# Altium integrated library Renesas Microcontroller 740.IntLib: 274 symbols (part 8 of 13)
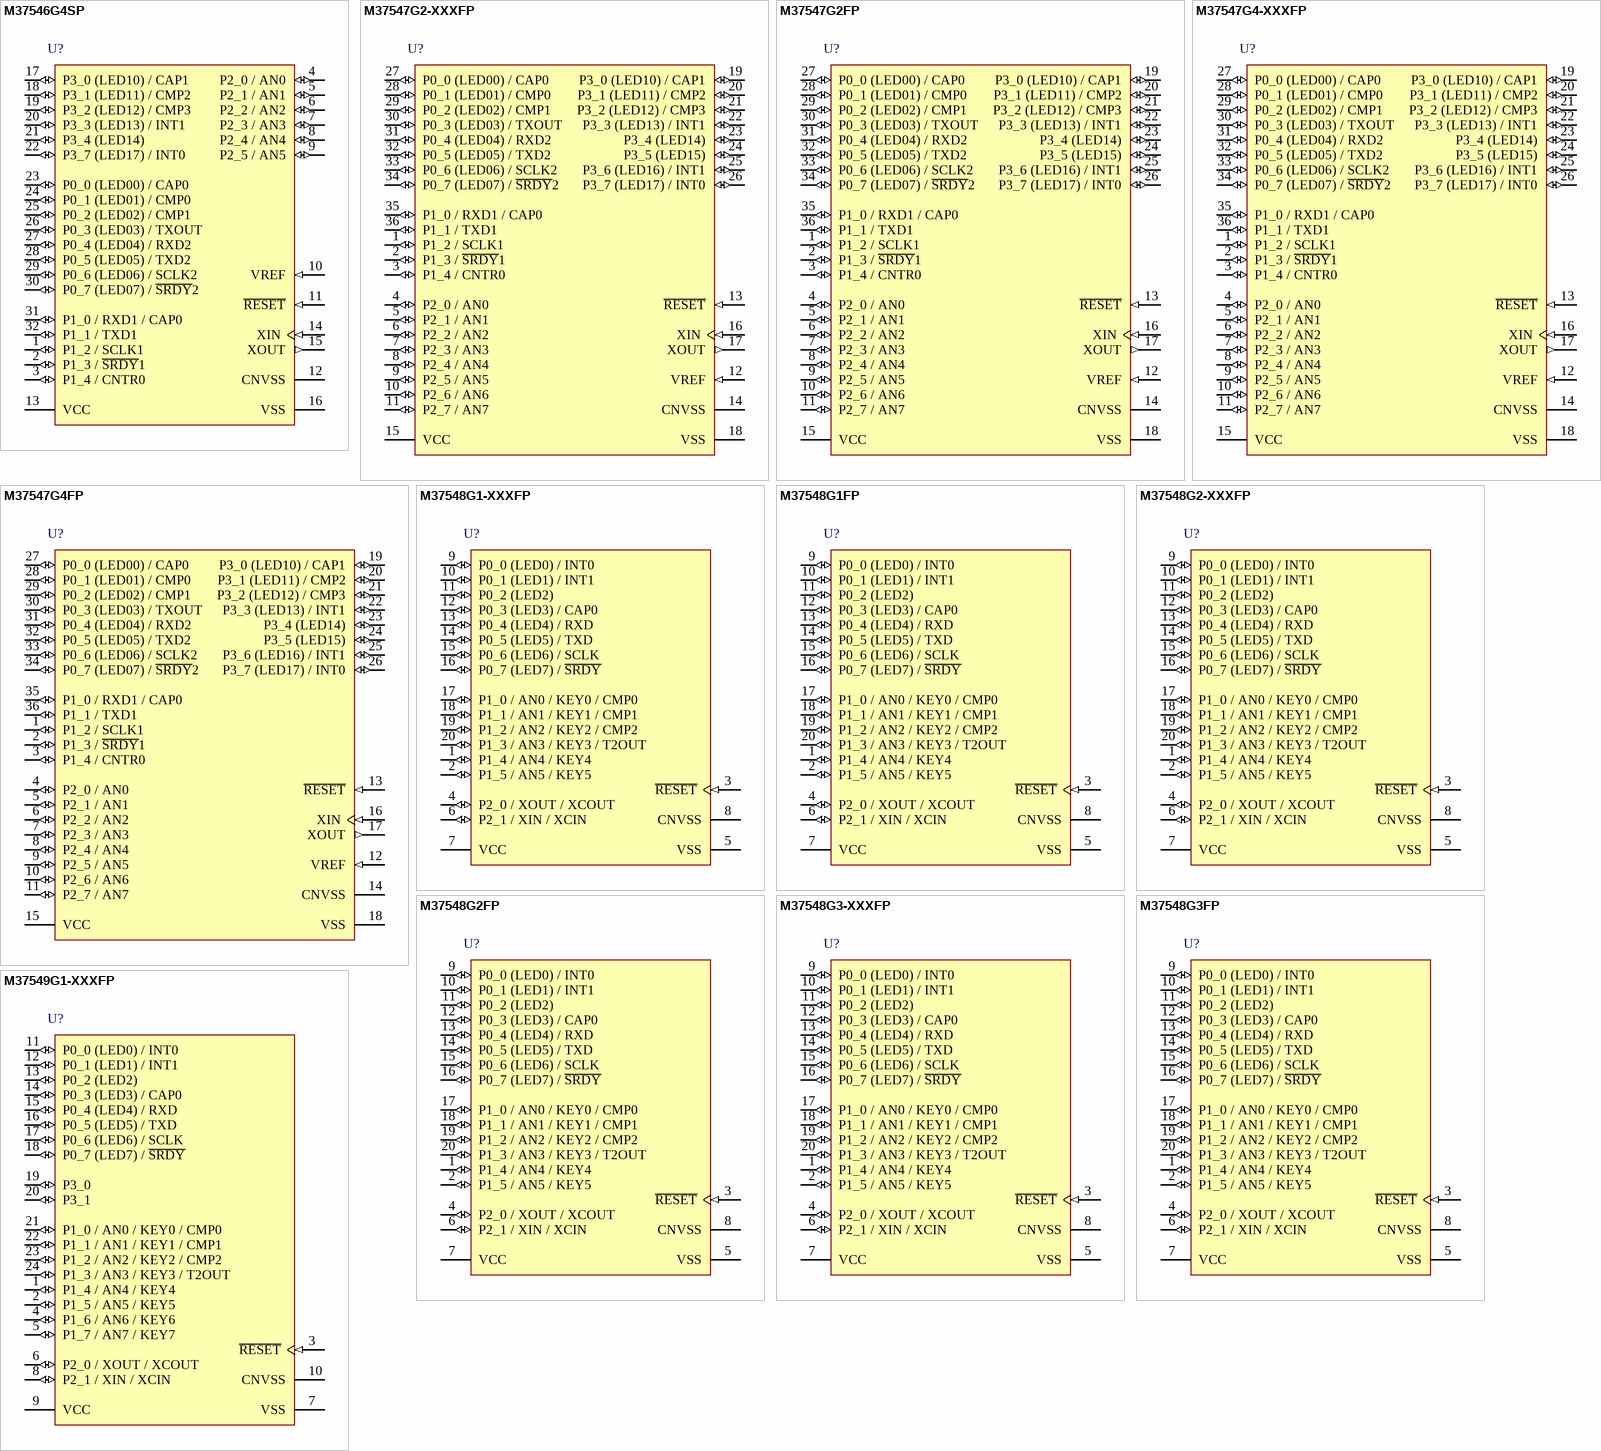
[diagram p44: symbols M37546G4SP to M37549G1-XXXFP]

## M37549G1-XXXFP
designator U?
QzROM 8-BIT CMOS Microcomputer, 38000/740 Series CPU, 7549 Group, 2K ROM, 192 bytes RAM, 24P2Q-A Pkg; Published: 28-Aug-2009; DatasheetVersion: Rev.2.02, Mar-2009; PackageVersion: Sep-2005; PackageReference: PRSP0024GA-A; Publisher: Altium Limited; PackageDescription: 24-Pin Plastic Shrink SOP, 10.1 x 5.3 x 1.8 mm Body, 0.8 mm Pitch; Code_JEITA: P-SSOP24-5.3x10.1-0.80; ComponentLink1Description: Manufacturer Link; ComponentLink1URL: http://sg.renesas.com/fmwk.jsp?cnt=740_family_landing.jsp&fp=/products/mpumcu/740_family/; ComponentLink2Description: Datasheet; ComponentLink2URL: http://documentation.renesas.com/eng/products/mpumcu/rej03b0202_7549ds.pdf; ComponentLink3Description: Packaging Specification; ComponentLink3URL: http://sg.renesas.com/media/products/common_info/package/pdf/ic/code/prsp0024ga_a.pdf
footprint PRSP0024GA-A_N (SOP, 24-Leads, Body 10.1x5.3mm, Pitch 0.8mm, IPC Medium Density)
footprint PRSP0024GA-A_L (SOP, 24-Leads, Body 10.1x5.3mm, Pitch 0.8mm, IPC High Density)
footprint PRSP0024GA-A_M (SOP, 24-Leads, Body 10.1x5.3mm, Pitch 0.8mm, IPC Low Density)
pins: 1 P1_4 / AN4 / KEY4 (io), 2 P1_5 / AN5 / KEY5 (io), 3 ~{RESET} (in), 4 P1_6 / AN6 / KEY6 (io), 5 P1_7 / AN7 / KEY7 (io), 6 P2_0 / XOUT / XCOUT (io), 7 VSS (power), 8 P2_1 / XIN / XCIN (io), 9 VCC (power), 10 CNVSS (power), 11 P0_0 (LED0) / INT0 (io), 12 P0_1 (LED1) / INT1 (io), 13 P0_2 (LED2) (io), 14 P0_3 (LED3) / CAP0 (io), 15 P0_4 (LED4) / RXD (io), 16 P0_5 (LED5) / TXD (io), 17 P0_6 (LED6) / SCLK (io), 18 P0_7 (LED7) / ~{SRDY} (io), 19 P3_0 (io), 20 P3_1 (io), 21 P1_0 / AN0 / KEY0 / CMP0 (io), 22 P1_1 / AN1 / KEY1 / CMP1 (io), 23 P1_2 / AN2 / KEY2 / CMP2 (io), 24 P1_3 / AN3 / KEY3 / T2OUT (io)

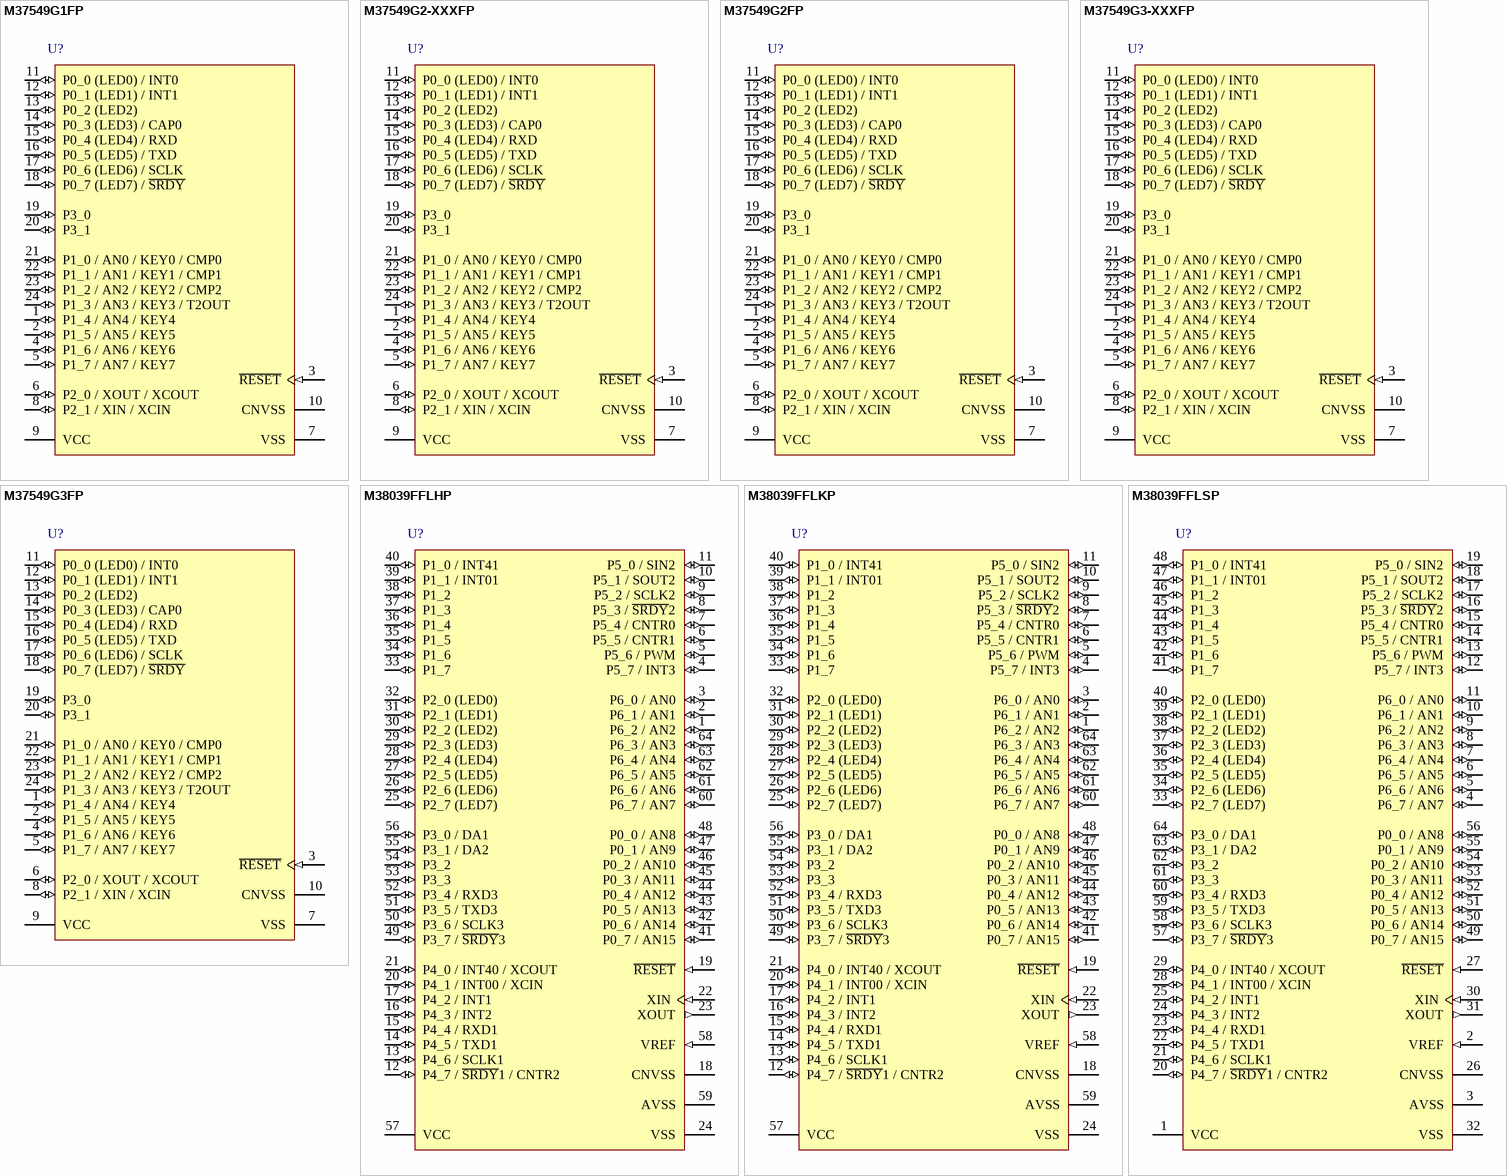
[diagram p21: symbols M37549G1FP to M38039FFLSP]

## M37549G1FP
designator U?
QzROM 8-BIT CMOS Microcomputer, 38000/740 Series CPU, 7549 Group, 2K ROM, 192 bytes RAM, 24P2Q-A Pkg, shipped in blank; Published: 28-Aug-2009; DatasheetVersion: Rev.2.02, Mar-2009; PackageVersion: Sep-2005; PackageReference: PRSP0024GA-A; Publisher: Altium Limited; PackageDescription: 24-Pin Plastic Shrink SOP, 10.1 x 5.3 x 1.8 mm Body, 0.8 mm Pitch; Code_JEITA: P-SSOP24-5.3x10.1-0.80; ComponentLink1Description: Manufacturer Link; ComponentLink1URL: http://sg.renesas.com/fmwk.jsp?cnt=740_family_landing.jsp&fp=/products/mpumcu/740_family/; ComponentLink2Description: Datasheet; ComponentLink2URL: http://documentation.renesas.com/eng/products/mpumcu/rej03b0202_7549ds.pdf; ComponentLink3Description: Packaging Specification; ComponentLink3URL: http://sg.renesas.com/media/products/common_info/package/pdf/ic/code/prsp0024ga_a.pdf
footprint PRSP0024GA-A_N (SOP, 24-Leads, Body 10.1x5.3mm, Pitch 0.8mm, IPC Medium Density)
footprint PRSP0024GA-A_L (SOP, 24-Leads, Body 10.1x5.3mm, Pitch 0.8mm, IPC High Density)
footprint PRSP0024GA-A_M (SOP, 24-Leads, Body 10.1x5.3mm, Pitch 0.8mm, IPC Low Density)
pins: 1 P1_4 / AN4 / KEY4 (io), 2 P1_5 / AN5 / KEY5 (io), 3 ~{RESET} (in), 4 P1_6 / AN6 / KEY6 (io), 5 P1_7 / AN7 / KEY7 (io), 6 P2_0 / XOUT / XCOUT (io), 7 VSS (power), 8 P2_1 / XIN / XCIN (io), 9 VCC (power), 10 CNVSS (power), 11 P0_0 (LED0) / INT0 (io), 12 P0_1 (LED1) / INT1 (io), 13 P0_2 (LED2) (io), 14 P0_3 (LED3) / CAP0 (io), 15 P0_4 (LED4) / RXD (io), 16 P0_5 (LED5) / TXD (io), 17 P0_6 (LED6) / SCLK (io), 18 P0_7 (LED7) / ~{SRDY} (io), 19 P3_0 (io), 20 P3_1 (io), 21 P1_0 / AN0 / KEY0 / CMP0 (io), 22 P1_1 / AN1 / KEY1 / CMP1 (io), 23 P1_2 / AN2 / KEY2 / CMP2 (io), 24 P1_3 / AN3 / KEY3 / T2OUT (io)

## M37549G2-XXXFP
designator U?
QzROM 8-BIT CMOS Microcomputer, 38000/740 Series CPU, 7549 Group, 4K ROM, 256 bytes RAM, 24P2Q-A Pkg; Published: 28-Aug-2009; DatasheetVersion: Rev.2.02, Mar-2009; PackageVersion: Sep-2005; PackageReference: PRSP0024GA-A; Publisher: Altium Limited; PackageDescription: 24-Pin Plastic Shrink SOP, 10.1 x 5.3 x 1.8 mm Body, 0.8 mm Pitch; Code_JEITA: P-SSOP24-5.3x10.1-0.80; ComponentLink1Description: Manufacturer Link; ComponentLink1URL: http://sg.renesas.com/fmwk.jsp?cnt=740_family_landing.jsp&fp=/products/mpumcu/740_family/; ComponentLink2Description: Datasheet; ComponentLink2URL: http://documentation.renesas.com/eng/products/mpumcu/rej03b0202_7549ds.pdf; ComponentLink3Description: Packaging Specification; ComponentLink3URL: http://sg.renesas.com/media/products/common_info/package/pdf/ic/code/prsp0024ga_a.pdf
footprint PRSP0024GA-A_N (SOP, 24-Leads, Body 10.1x5.3mm, Pitch 0.8mm, IPC Medium Density)
footprint PRSP0024GA-A_L (SOP, 24-Leads, Body 10.1x5.3mm, Pitch 0.8mm, IPC High Density)
footprint PRSP0024GA-A_M (SOP, 24-Leads, Body 10.1x5.3mm, Pitch 0.8mm, IPC Low Density)
pins: 1 P1_4 / AN4 / KEY4 (io), 2 P1_5 / AN5 / KEY5 (io), 3 ~{RESET} (in), 4 P1_6 / AN6 / KEY6 (io), 5 P1_7 / AN7 / KEY7 (io), 6 P2_0 / XOUT / XCOUT (io), 7 VSS (power), 8 P2_1 / XIN / XCIN (io), 9 VCC (power), 10 CNVSS (power), 11 P0_0 (LED0) / INT0 (io), 12 P0_1 (LED1) / INT1 (io), 13 P0_2 (LED2) (io), 14 P0_3 (LED3) / CAP0 (io), 15 P0_4 (LED4) / RXD (io), 16 P0_5 (LED5) / TXD (io), 17 P0_6 (LED6) / SCLK (io), 18 P0_7 (LED7) / ~{SRDY} (io), 19 P3_0 (io), 20 P3_1 (io), 21 P1_0 / AN0 / KEY0 / CMP0 (io), 22 P1_1 / AN1 / KEY1 / CMP1 (io), 23 P1_2 / AN2 / KEY2 / CMP2 (io), 24 P1_3 / AN3 / KEY3 / T2OUT (io)

## M37549G2FP
designator U?
QzROM 8-BIT CMOS Microcomputer, 38000/740 Series CPU, 7549 Group, 4K ROM, 256 bytes RAM, 24P2Q-A Pkg, shipped in blank; Published: 28-Aug-2009; DatasheetVersion: Rev.2.02, Mar-2009; PackageVersion: Sep-2005; PackageReference: PRSP0024GA-A; Publisher: Altium Limited; PackageDescription: 24-Pin Plastic Shrink SOP, 10.1 x 5.3 x 1.8 mm Body, 0.8 mm Pitch; Code_JEITA: P-SSOP24-5.3x10.1-0.80; ComponentLink1Description: Manufacturer Link; ComponentLink1URL: http://sg.renesas.com/fmwk.jsp?cnt=740_family_landing.jsp&fp=/products/mpumcu/740_family/; ComponentLink2Description: Datasheet; ComponentLink2URL: http://documentation.renesas.com/eng/products/mpumcu/rej03b0202_7549ds.pdf; ComponentLink3Description: Packaging Specification; ComponentLink3URL: http://sg.renesas.com/media/products/common_info/package/pdf/ic/code/prsp0024ga_a.pdf
footprint PRSP0024GA-A_N (SOP, 24-Leads, Body 10.1x5.3mm, Pitch 0.8mm, IPC Medium Density)
footprint PRSP0024GA-A_L (SOP, 24-Leads, Body 10.1x5.3mm, Pitch 0.8mm, IPC High Density)
footprint PRSP0024GA-A_M (SOP, 24-Leads, Body 10.1x5.3mm, Pitch 0.8mm, IPC Low Density)
pins: 1 P1_4 / AN4 / KEY4 (io), 2 P1_5 / AN5 / KEY5 (io), 3 ~{RESET} (in), 4 P1_6 / AN6 / KEY6 (io), 5 P1_7 / AN7 / KEY7 (io), 6 P2_0 / XOUT / XCOUT (io), 7 VSS (power), 8 P2_1 / XIN / XCIN (io), 9 VCC (power), 10 CNVSS (power), 11 P0_0 (LED0) / INT0 (io), 12 P0_1 (LED1) / INT1 (io), 13 P0_2 (LED2) (io), 14 P0_3 (LED3) / CAP0 (io), 15 P0_4 (LED4) / RXD (io), 16 P0_5 (LED5) / TXD (io), 17 P0_6 (LED6) / SCLK (io), 18 P0_7 (LED7) / ~{SRDY} (io), 19 P3_0 (io), 20 P3_1 (io), 21 P1_0 / AN0 / KEY0 / CMP0 (io), 22 P1_1 / AN1 / KEY1 / CMP1 (io), 23 P1_2 / AN2 / KEY2 / CMP2 (io), 24 P1_3 / AN3 / KEY3 / T2OUT (io)

## M37549G3-XXXFP
designator U?
QzROM 8-BIT CMOS Microcomputer, 38000/740 Series CPU, 7549 Group, 6K ROM, 256 bytes RAM, 24P2Q-A Pkg; Published: 28-Aug-2009; DatasheetVersion: Rev.2.02, Mar-2009; PackageVersion: Sep-2005; PackageReference: PRSP0024GA-A; Publisher: Altium Limited; PackageDescription: 24-Pin Plastic Shrink SOP, 10.1 x 5.3 x 1.8 mm Body, 0.8 mm Pitch; Code_JEITA: P-SSOP24-5.3x10.1-0.80; ComponentLink1Description: Manufacturer Link; ComponentLink1URL: http://sg.renesas.com/fmwk.jsp?cnt=740_family_landing.jsp&fp=/products/mpumcu/740_family/; ComponentLink2Description: Datasheet; ComponentLink2URL: http://documentation.renesas.com/eng/products/mpumcu/rej03b0202_7549ds.pdf; ComponentLink3Description: Packaging Specification; ComponentLink3URL: http://sg.renesas.com/media/products/common_info/package/pdf/ic/code/prsp0024ga_a.pdf
footprint PRSP0024GA-A_N (SOP, 24-Leads, Body 10.1x5.3mm, Pitch 0.8mm, IPC Medium Density)
footprint PRSP0024GA-A_L (SOP, 24-Leads, Body 10.1x5.3mm, Pitch 0.8mm, IPC High Density)
footprint PRSP0024GA-A_M (SOP, 24-Leads, Body 10.1x5.3mm, Pitch 0.8mm, IPC Low Density)
pins: 1 P1_4 / AN4 / KEY4 (io), 2 P1_5 / AN5 / KEY5 (io), 3 ~{RESET} (in), 4 P1_6 / AN6 / KEY6 (io), 5 P1_7 / AN7 / KEY7 (io), 6 P2_0 / XOUT / XCOUT (io), 7 VSS (power), 8 P2_1 / XIN / XCIN (io), 9 VCC (power), 10 CNVSS (power), 11 P0_0 (LED0) / INT0 (io), 12 P0_1 (LED1) / INT1 (io), 13 P0_2 (LED2) (io), 14 P0_3 (LED3) / CAP0 (io), 15 P0_4 (LED4) / RXD (io), 16 P0_5 (LED5) / TXD (io), 17 P0_6 (LED6) / SCLK (io), 18 P0_7 (LED7) / ~{SRDY} (io), 19 P3_0 (io), 20 P3_1 (io), 21 P1_0 / AN0 / KEY0 / CMP0 (io), 22 P1_1 / AN1 / KEY1 / CMP1 (io), 23 P1_2 / AN2 / KEY2 / CMP2 (io), 24 P1_3 / AN3 / KEY3 / T2OUT (io)

## M37549G3FP
designator U?
QzROM 8-BIT CMOS Microcomputer, 38000/740 Series CPU, 7549 Group, 6K ROM, 256 bytes RAM, 24P2Q-A Pkg, shipped in blank; Published: 28-Aug-2009; DatasheetVersion: Rev.2.02, Mar-2009; PackageVersion: Sep-2005; PackageReference: PRSP0024GA-A; Publisher: Altium Limited; PackageDescription: 24-Pin Plastic Shrink SOP, 10.1 x 5.3 x 1.8 mm Body, 0.8 mm Pitch; Code_JEITA: P-SSOP24-5.3x10.1-0.80; ComponentLink1Description: Manufacturer Link; ComponentLink1URL: http://sg.renesas.com/fmwk.jsp?cnt=740_family_landing.jsp&fp=/products/mpumcu/740_family/; ComponentLink2Description: Datasheet; ComponentLink2URL: http://documentation.renesas.com/eng/products/mpumcu/rej03b0202_7549ds.pdf; ComponentLink3Description: Packaging Specification; ComponentLink3URL: http://sg.renesas.com/media/products/common_info/package/pdf/ic/code/prsp0024ga_a.pdf
footprint PRSP0024GA-A_N (SOP, 24-Leads, Body 10.1x5.3mm, Pitch 0.8mm, IPC Medium Density)
footprint PRSP0024GA-A_L (SOP, 24-Leads, Body 10.1x5.3mm, Pitch 0.8mm, IPC High Density)
footprint PRSP0024GA-A_M (SOP, 24-Leads, Body 10.1x5.3mm, Pitch 0.8mm, IPC Low Density)
pins: 1 P1_4 / AN4 / KEY4 (io), 2 P1_5 / AN5 / KEY5 (io), 3 ~{RESET} (in), 4 P1_6 / AN6 / KEY6 (io), 5 P1_7 / AN7 / KEY7 (io), 6 P2_0 / XOUT / XCOUT (io), 7 VSS (power), 8 P2_1 / XIN / XCIN (io), 9 VCC (power), 10 CNVSS (power), 11 P0_0 (LED0) / INT0 (io), 12 P0_1 (LED1) / INT1 (io), 13 P0_2 (LED2) (io), 14 P0_3 (LED3) / CAP0 (io), 15 P0_4 (LED4) / RXD (io), 16 P0_5 (LED5) / TXD (io), 17 P0_6 (LED6) / SCLK (io), 18 P0_7 (LED7) / ~{SRDY} (io), 19 P3_0 (io), 20 P3_1 (io), 21 P1_0 / AN0 / KEY0 / CMP0 (io), 22 P1_1 / AN1 / KEY1 / CMP1 (io), 23 P1_2 / AN2 / KEY2 / CMP2 (io), 24 P1_3 / AN3 / KEY3 / T2OUT (io)

## M38039FFLHP
designator U?
Flash Memory 8-BIT CMOS Microcomputer, 38000/740 Series CPU, 3803 Group (Spec.L), 60K ROM, 2K RAM, 64P6Q-A Pkg; Published: 28-Aug-2009; DatasheetVersion: Rev.1.01, Jan-2008; PackageVersion: Sep-2005; PackageReference: PLQP0064KB-A; Publisher: Altium Limited; PackageDescription: 64-Pin Plastic Low Profile QFP, 10 x 10 x 1.4 mm Body, 0.5 mm Pitch; Code_JEITA: P-LQFP64-10x10-0.50; Code_IPC: SQFP50P1200X1200-64; ComponentLink1Description: Manufacturer Link; ComponentLink1URL: http://sg.renesas.com/fmwk.jsp?cnt=740_family_landing.jsp&fp=/products/mpumcu/740_family/; ComponentLink2Description: Datasheet; ComponentLink2URL: http://documentation.renesas.com/eng/products/mpumcu/rej03b0212_3803lds.pdf; ComponentLink3Description: Packaging Specification; ComponentLink3URL: http://sg.renesas.com/media/products/common_info/package/pdf/ic/code/plqp0064kb_a.pdf
footprint PLQP0064KB-A_N (Shrink QFP, 64-Leads, Body 10x10mm, Pitch 0.5mm, IPC Medium Density)
footprint PLQP0064KB-A_L (Shrink QFP, 64-Leads, Body 10x10mm, Pitch 0.5mm, IPC High Density)
footprint PLQP0064KB-A_M (Shrink QFP, 64-Leads, Body 10x10mm, Pitch 0.5mm, IPC Low Density)
pins: 1 P6_2 / AN2 (io), 2 P6_1 / AN1 (io), 3 P6_0 / AN0 (io), 4 P5_7 / INT3 (io), 5 P5_6 / PWM (io), 6 P5_5 / CNTR1 (io), 7 P5_4 / CNTR0 (io), 8 P5_3 / ~{SRDY}2 (io), 9 P5_2 / SCLK2 (io), 10 P5_1 / SOUT2 (io), 11 P5_0 / SIN2 (io), 12 P4_7 / ~{SRDY}1 / CNTR2 (io), 13 P4_6 / SCLK1 (io), 14 P4_5 / TXD1 (io), 15 P4_4 / RXD1 (io), 16 P4_3 / INT2 (io), 17 P4_2 / INT1 (io), 18 CNVSS (power), 19 ~{RESET} (in), 20 P4_1 / INT00 / XCIN (io), 21 P4_0 / INT40 / XCOUT (io), 22 XIN (in), 23 XOUT (out), 24 VSS (power), 25 P2_7 (LED7) (io), 26 P2_6 (LED6) (io), 27 P2_5 (LED5) (io), 28 P2_4 (LED4) (io), 29 P2_3 (LED3) (io), 30 P2_2 (LED2) (io), 31 P2_1 (LED1) (io), 32 P2_0 (LED0) (io), 33 P1_7 (io), 34 P1_6 (io), 35 P1_5 (io), 36 P1_4 (io), 37 P1_3 (io), 38 P1_2 (io), 39 P1_1 / INT01 (io), 40 P1_0 / INT41 (io), 41 P0_7 / AN15 (io), 42 P0_6 / AN14 (io), 43 P0_5 / AN13 (io), 44 P0_4 / AN12 (io), 45 P0_3 / AN11 (io), 46 P0_2 / AN10 (io), 47 P0_1 / AN9 (io), 48 P0_0 / AN8 (io), 49 P3_7 / ~{SRDY}3 (io), 50 P3_6 / SCLK3 (io), 51 P3_5 / TXD3 (io), 52 P3_4 / RXD3 (io), 53 P3_3 (io), 54 P3_2 (io), 55 P3_1 / DA2 (io), 56 P3_0 / DA1 (io), 57 VCC (power), 58 VREF (in), 59 AVSS (power), 60 P6_7 / AN7 (io), 61 P6_6 / AN6 (io), 62 P6_5 / AN5 (io), 63 P6_4 / AN4 (io), 64 P6_3 / AN3 (io)

## M38039FFLKP
designator U?
Flash Memory 8-BIT CMOS Microcomputer, 38000/740 Series CPU, 3803 Group (Spec.L), 60K ROM, 2K RAM, 64P6U-A Pkg; Published: 28-Aug-2009; DatasheetVersion: Rev.1.01, Jan-2008; PackageVersion: Oct-2005; PackageReference: PLQP0064GA-A; Publisher: Altium Limited; PackageDescription: 64-Pin Plastic Low Profile QFP, 14 x 14 x 1.4 mm Body, 0.8 mm Pitch; Code_JEITA: P-LQFP64-14x14-0.80; ComponentLink1Description: Manufacturer Link; ComponentLink1URL: http://sg.renesas.com/fmwk.jsp?cnt=740_family_landing.jsp&fp=/products/mpumcu/740_family/; ComponentLink2Description: Datasheet; ComponentLink2URL: http://documentation.renesas.com/eng/products/mpumcu/rej03b0212_3803lds.pdf; ComponentLink3Description: Packaging Specification; ComponentLink3URL: http://sg.renesas.com/media/products/common_info/package/pdf/ic/code/plqp0064ga_a.pdf
footprint PLQP0064GA-A_N (QFP, 64-Leads, Body 14x14mm, Pitch 0.8mm, IPC Medium Density)
footprint PLQP0064GA-A_L (QFP, 64-Leads, Body 14x14mm, Pitch 0.8mm, IPC High Density)
footprint PLQP0064GA-A_M (QFP, 64-Leads, Body 14x14mm, Pitch 0.8mm, IPC Low Density)
pins: 1 P6_2 / AN2 (io), 2 P6_1 / AN1 (io), 3 P6_0 / AN0 (io), 4 P5_7 / INT3 (io), 5 P5_6 / PWM (io), 6 P5_5 / CNTR1 (io), 7 P5_4 / CNTR0 (io), 8 P5_3 / ~{SRDY}2 (io), 9 P5_2 / SCLK2 (io), 10 P5_1 / SOUT2 (io), 11 P5_0 / SIN2 (io), 12 P4_7 / ~{SRDY}1 / CNTR2 (io), 13 P4_6 / SCLK1 (io), 14 P4_5 / TXD1 (io), 15 P4_4 / RXD1 (io), 16 P4_3 / INT2 (io), 17 P4_2 / INT1 (io), 18 CNVSS (power), 19 ~{RESET} (in), 20 P4_1 / INT00 / XCIN (io), 21 P4_0 / INT40 / XCOUT (io), 22 XIN (in), 23 XOUT (out), 24 VSS (power), 25 P2_7 (LED7) (io), 26 P2_6 (LED6) (io), 27 P2_5 (LED5) (io), 28 P2_4 (LED4) (io), 29 P2_3 (LED3) (io), 30 P2_2 (LED2) (io), 31 P2_1 (LED1) (io), 32 P2_0 (LED0) (io), 33 P1_7 (io), 34 P1_6 (io), 35 P1_5 (io), 36 P1_4 (io), 37 P1_3 (io), 38 P1_2 (io), 39 P1_1 / INT01 (io), 40 P1_0 / INT41 (io), 41 P0_7 / AN15 (io), 42 P0_6 / AN14 (io), 43 P0_5 / AN13 (io), 44 P0_4 / AN12 (io), 45 P0_3 / AN11 (io), 46 P0_2 / AN10 (io), 47 P0_1 / AN9 (io), 48 P0_0 / AN8 (io), 49 P3_7 / ~{SRDY}3 (io), 50 P3_6 / SCLK3 (io), 51 P3_5 / TXD3 (io), 52 P3_4 / RXD3 (io), 53 P3_3 (io), 54 P3_2 (io), 55 P3_1 / DA2 (io), 56 P3_0 / DA1 (io), 57 VCC (power), 58 VREF (in), 59 AVSS (power), 60 P6_7 / AN7 (io), 61 P6_6 / AN6 (io), 62 P6_5 / AN5 (io), 63 P6_4 / AN4 (io), 64 P6_3 / AN3 (io)

## M38039FFLSP
designator U?
Flash Memory 8-BIT CMOS Microcomputer, 38000/740 Series CPU, 3803 Group (Spec.L), 60K ROM, 2K RAM, 64P4B Pkg; Published: 28-Aug-2009; DatasheetVersion: Rev.1.01, Jan-2008; PackageVersion: Sep-2005; PackageReference: PRDP0064BA-A; Publisher: Altium Limited; PackageDescription: 64-Pin Plastic Shrink DIP, 56.4 x 17 mm Body, 19.05 mm Row Spacing , 1.778 mm Pitch; Code_JEITA: P-SDIP64-17x56.4-1.78; ComponentLink1Description: Manufacturer Link; ComponentLink1URL: http://sg.renesas.com/fmwk.jsp?cnt=740_family_landing.jsp&fp=/products/mpumcu/740_family/; ComponentLink2Description: Datasheet; ComponentLink2URL: http://documentation.renesas.com/eng/products/mpumcu/rej03b0212_3803lds.pdf; ComponentLink3Description: Packaging Specification; ComponentLink3URL: http://sg.renesas.com/media/products/common_info/package/pdf/ic/code/prdp0064ba_a.pdf
footprint PRDP0064BA-A (DIP, 64-Leads, Row Spacing 19.05mm, Pitch 1.778mm, Body 56.4x17mm)
pins: 1 VCC (power), 2 VREF (in), 3 AVSS (power), 4 P6_7 / AN7 (io), 5 P6_6 / AN6 (io), 6 P6_5 / AN5 (io), 7 P6_4 / AN4 (io), 8 P6_3 / AN3 (io), 9 P6_2 / AN2 (io), 10 P6_1 / AN1 (io), 11 P6_0 / AN0 (io), 12 P5_7 / INT3 (io), 13 P5_6 / PWM (io), 14 P5_5 / CNTR1 (io), 15 P5_4 / CNTR0 (io), 16 P5_3 / ~{SRDY}2 (io), 17 P5_2 / SCLK2 (io), 18 P5_1 / SOUT2 (io), 19 P5_0 / SIN2 (io), 20 P4_7 / ~{SRDY}1 / CNTR2 (io), 21 P4_6 / SCLK1 (io), 22 P4_5 / TXD1 (io), 23 P4_4 / RXD1 (io), 24 P4_3 / INT2 (io), 25 P4_2 / INT1 (io), 26 CNVSS (power), 27 ~{RESET} (in), 28 P4_1 / INT00 / XCIN (io), 29 P4_0 / INT40 / XCOUT (io), 30 XIN (in), 31 XOUT (out), 32 VSS (power), 33 P2_7 (LED7) (io), 34 P2_6 (LED6) (io), 35 P2_5 (LED5) (io), 36 P2_4 (LED4) (io), 37 P2_3 (LED3) (io), 38 P2_2 (LED2) (io), 39 P2_1 (LED1) (io), 40 P2_0 (LED0) (io), 41 P1_7 (io), 42 P1_6 (io), 43 P1_5 (io), 44 P1_4 (io), 45 P1_3 (io), 46 P1_2 (io), 47 P1_1 / INT01 (io), 48 P1_0 / INT41 (io), 49 P0_7 / AN15 (io), 50 P0_6 / AN14 (io), 51 P0_5 / AN13 (io), 52 P0_4 / AN12 (io), 53 P0_3 / AN11 (io), 54 P0_2 / AN10 (io), 55 P0_1 / AN9 (io), 56 P0_0 / AN8 (io), 57 P3_7 / ~{SRDY}3 (io), 58 P3_6 / SCLK3 (io), 59 P3_5 / TXD3 (io), 60 P3_4 / RXD3 (io), 61 P3_3 (io), 62 P3_2 (io), 63 P3_1 / DA2 (io), 64 P3_0 / DA1 (io)

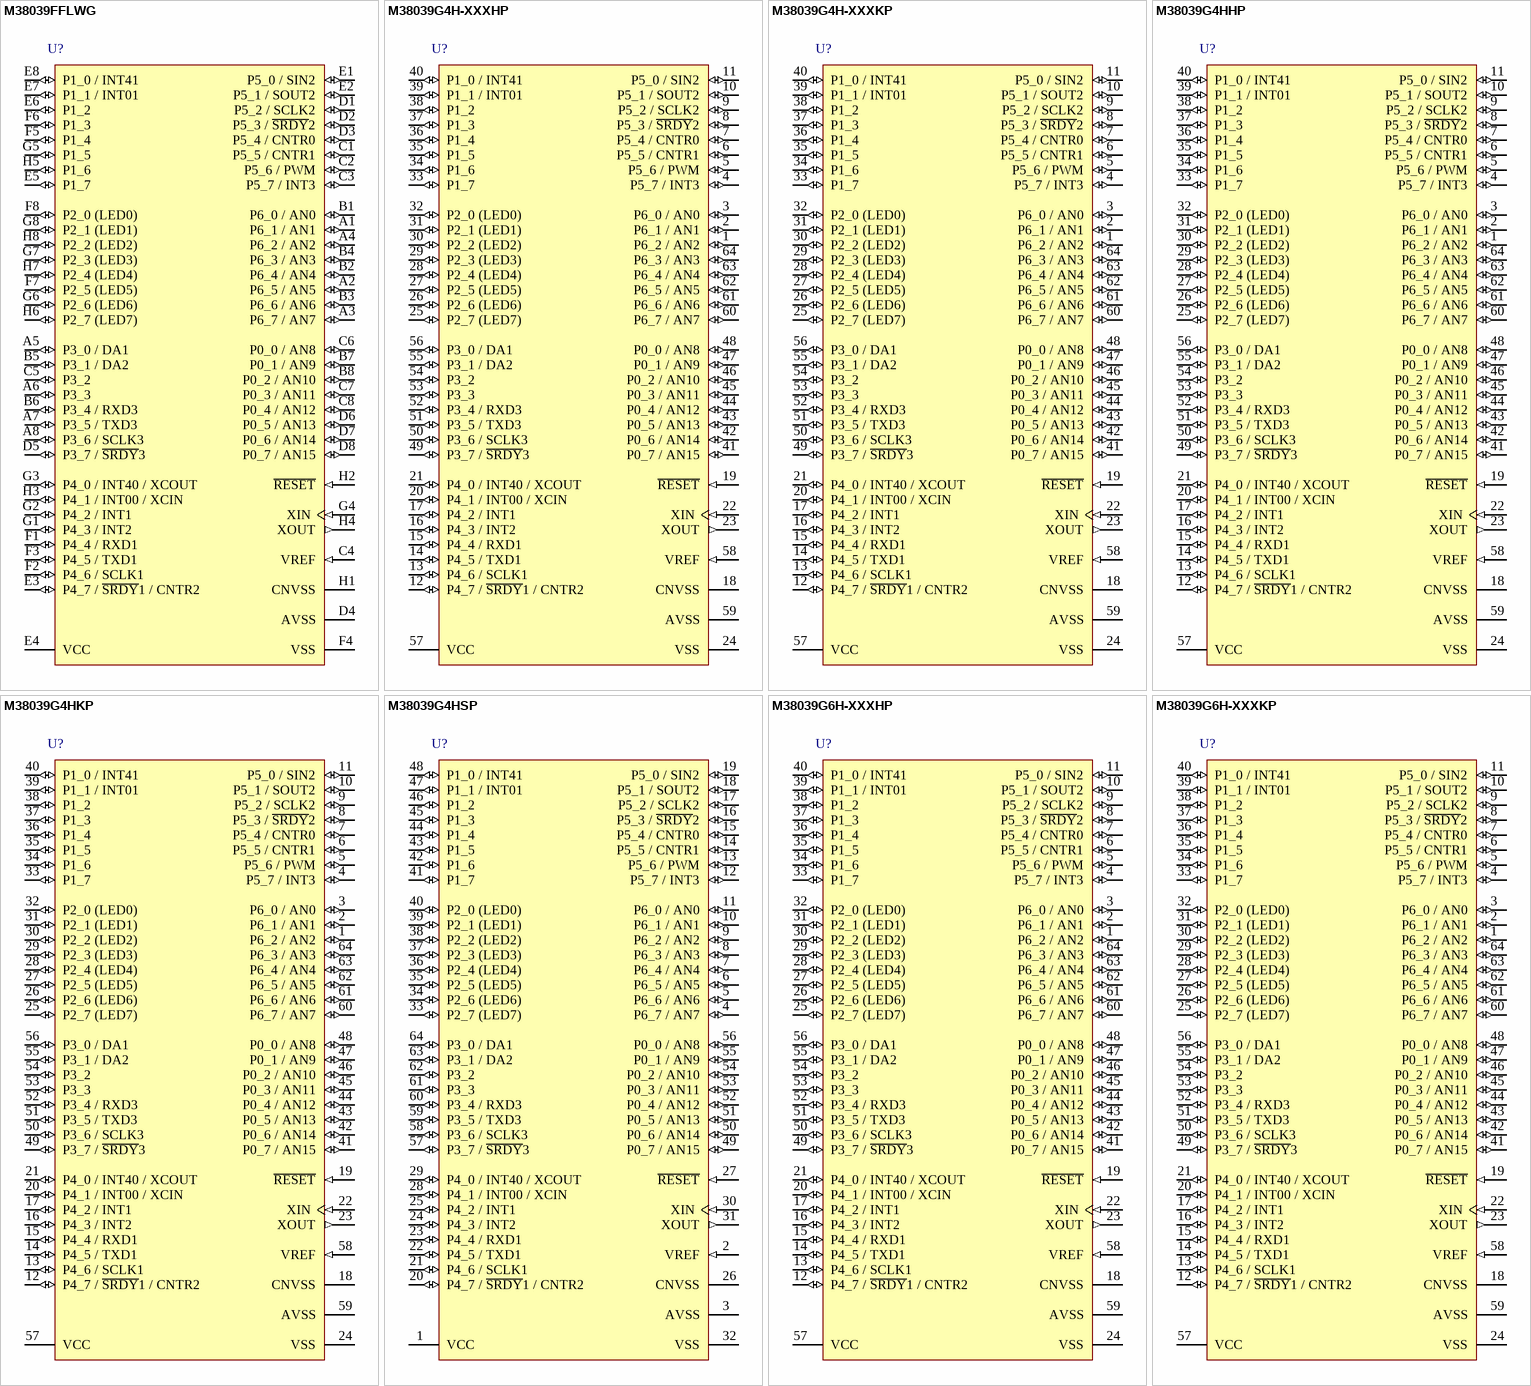
[diagram p22: symbols M38039FFLWG to M38039G6H-XXXKP]

## M38039FFLWG
designator U?
Flash Memory 8-BIT CMOS Microcomputer, 38000/740 Series CPU, 3803 Group (Spec.L), 60K ROM, 2K RAM, 64F0G Pkg; Published: 28-Aug-2009; DatasheetVersion: Rev.1.01, Jan-2008; PackageVersion: Sep-2005; PackageReference: PTLG0064JA-A; Publisher: Altium Limited; PackageDescription: 64-Ball Plastic Thin Fine-Pitch BGA, 6 x 6 mm Body, 0.65 mm Pitch; Code_JEITA: P-TFLGA64-6x6-0.65; ComponentLink1Description: Manufacturer Link; ComponentLink1URL: http://sg.renesas.com/fmwk.jsp?cnt=740_family_landing.jsp&fp=/products/mpumcu/740_family/; ComponentLink2Description: Datasheet; ComponentLink2URL: http://documentation.renesas.com/eng/products/mpumcu/rej03b0212_3803lds.pdf; ComponentLink3Description: Packaging Specification; ComponentLink3URL: http://sg.renesas.com/media/products/common_info/package/pdf/ic/code/ptlg0064ja_a.pdf
footprint PTLG0064JA-A (BGA, 64-Leads, Body 6x6mm, Pitch 0.65mm)
pins: A1 P6_1 / AN1 (io), A2 P6_5 / AN5 (io), A3 P6_7 / AN7 (io), A4 P6_2 / AN2 (io), A5 P3_0 / DA1 (io), A6 P3_3 (io), A7 P3_5 / TXD3 (io), A8 P3_6 / SCLK3 (io), B1 P6_0 / AN0 (io), B2 P6_4 / AN4 (io), B3 P6_6 / AN6 (io), B4 P6_3 / AN3 (io), B5 P3_1 / DA2 (io), B6 P3_4 / RXD3 (io), B7 P0_1 / AN9 (io), B8 P0_2 / AN10 (io), C1 P5_5 / CNTR1 (io), C2 P5_6 / PWM (io), C3 P5_7 / INT3 (io), C4 VREF (in), C5 P3_2 (io), C6 P0_0 / AN8 (io), C7 P0_3 / AN11 (io), C8 P0_4 / AN12 (io), D1 P5_2 / SCLK2 (io), D2 P5_3 / ~{SRDY}2 (io), D3 P5_4 / CNTR0 (io), D4 AVSS (power), D5 P3_7 / ~{SRDY}3 (io), D6 P0_5 / AN13 (io), D7 P0_6 / AN14 (io), D8 P0_7 / AN15 (io), E1 P5_0 / SIN2 (io), E2 P5_1 / SOUT2 (io), E3 P4_7 / ~{SRDY}1 / CNTR2 (io), E4 VCC (power), E5 P1_7 (io), E6 P1_2 (io), E7 P1_1 / INT01 (io), E8 P1_0 / INT41 (io), F1 P4_4 / RXD1 (io), F2 P4_6 / SCLK1 (io), F3 P4_5 / TXD1 (io), F4 VSS (power), F5 P1_4 (io), F6 P1_3 (io), F7 P2_5 (LED5) (io), F8 P2_0 (LED0) (io), G1 P4_3 / INT2 (io), G2 P4_2 / INT1 (io), G3 P4_0 / INT40 / XCOUT (io), G4 XIN (in), G5 P1_5 (io), G6 P2_6 (LED6) (io), G7 P2_3 (LED3) (io), G8 P2_1 (LED1) (io), H1 CNVSS (power), H2 ~{RESET} (in), H3 P4_1 / INT00 / XCIN (io), H4 XOUT (out), H5 P1_6 (io), H6 P2_7 (LED7) (io), H7 P2_4 (LED4) (io), H8 P2_2 (LED2) (io)

## M38039G4H-XXXHP
designator U?
Spec.H QzROM 8-BIT CMOS Microcomputer, 38000/740 Series CPU, 3803 Group, 16K ROM, 2K RAM, 64P6Q-A Pkg, user ROM programmed; Published: 28-Aug-2009; DatasheetVersion: Rev.1.13, Aug-2009; PackageVersion: Sep-2005; PackageReference: PLQP0064KB-A; Publisher: Altium Limited; PackageDescription: 64-Pin Plastic Low Profile QFP, 10 x 10 x 1.4 mm Body, 0.5 mm Pitch; Code_JEITA: P-LQFP64-10x10-0.50; Code_IPC: SQFP50P1200X1200-64; ComponentLink1Description: Manufacturer Link; ComponentLink1URL: http://sg.renesas.com/fmwk.jsp?cnt=740_family_landing.jsp&fp=/products/mpumcu/740_family/; ComponentLink2Description: Datasheet; ComponentLink2URL: http://documentation.renesas.com/eng/products/mpumcu/rej03b0166_3803hqzds.pdf; ComponentLink3Description: Packaging Specification; ComponentLink3URL: http://sg.renesas.com/media/products/common_info/package/pdf/ic/code/plqp0064kb_a.pdf
footprint PLQP0064KB-A_N (Shrink QFP, 64-Leads, Body 10x10mm, Pitch 0.5mm, IPC Medium Density)
footprint PLQP0064KB-A_L (Shrink QFP, 64-Leads, Body 10x10mm, Pitch 0.5mm, IPC High Density)
footprint PLQP0064KB-A_M (Shrink QFP, 64-Leads, Body 10x10mm, Pitch 0.5mm, IPC Low Density)
pins: 1 P6_2 / AN2 (io), 2 P6_1 / AN1 (io), 3 P6_0 / AN0 (io), 4 P5_7 / INT3 (io), 5 P5_6 / PWM (io), 6 P5_5 / CNTR1 (io), 7 P5_4 / CNTR0 (io), 8 P5_3 / ~{SRDY}2 (io), 9 P5_2 / SCLK2 (io), 10 P5_1 / SOUT2 (io), 11 P5_0 / SIN2 (io), 12 P4_7 / ~{SRDY}1 / CNTR2 (io), 13 P4_6 / SCLK1 (io), 14 P4_5 / TXD1 (io), 15 P4_4 / RXD1 (io), 16 P4_3 / INT2 (io), 17 P4_2 / INT1 (io), 18 CNVSS (power), 19 ~{RESET} (in), 20 P4_1 / INT00 / XCIN (io), 21 P4_0 / INT40 / XCOUT (io), 22 XIN (in), 23 XOUT (out), 24 VSS (power), 25 P2_7 (LED7) (io), 26 P2_6 (LED6) (io), 27 P2_5 (LED5) (io), 28 P2_4 (LED4) (io), 29 P2_3 (LED3) (io), 30 P2_2 (LED2) (io), 31 P2_1 (LED1) (io), 32 P2_0 (LED0) (io), 33 P1_7 (io), 34 P1_6 (io), 35 P1_5 (io), 36 P1_4 (io), 37 P1_3 (io), 38 P1_2 (io), 39 P1_1 / INT01 (io), 40 P1_0 / INT41 (io), 41 P0_7 / AN15 (io), 42 P0_6 / AN14 (io), 43 P0_5 / AN13 (io), 44 P0_4 / AN12 (io), 45 P0_3 / AN11 (io), 46 P0_2 / AN10 (io), 47 P0_1 / AN9 (io), 48 P0_0 / AN8 (io), 49 P3_7 / ~{SRDY}3 (io), 50 P3_6 / SCLK3 (io), 51 P3_5 / TXD3 (io), 52 P3_4 / RXD3 (io), 53 P3_3 (io), 54 P3_2 (io), 55 P3_1 / DA2 (io), 56 P3_0 / DA1 (io), 57 VCC (power), 58 VREF (in), 59 AVSS (power), 60 P6_7 / AN7 (io), 61 P6_6 / AN6 (io), 62 P6_5 / AN5 (io), 63 P6_4 / AN4 (io), 64 P6_3 / AN3 (io)

## M38039G4H-XXXKP
designator U?
Spec.H QzROM 8-BIT CMOS Microcomputer, 38000/740 Series CPU, 3803 Group, 16K ROM, 2K RAM, 64P6U-A Pkg, user ROM programmed; Published: 28-Aug-2009; DatasheetVersion: Rev.1.13, Aug-2009; PackageVersion: Oct-2005; PackageReference: PLQP0064GA-A; Publisher: Altium Limited; PackageDescription: 64-Pin Plastic Low Profile QFP, 14 x 14 x 1.4 mm Body, 0.8 mm Pitch; Code_JEITA: P-LQFP64-14x14-0.80; ComponentLink1Description: Manufacturer Link; ComponentLink1URL: http://sg.renesas.com/fmwk.jsp?cnt=740_family_landing.jsp&fp=/products/mpumcu/740_family/; ComponentLink2Description: Datasheet; ComponentLink2URL: http://documentation.renesas.com/eng/products/mpumcu/rej03b0166_3803hqzds.pdf; ComponentLink3Description: Packaging Specification; ComponentLink3URL: http://sg.renesas.com/media/products/common_info/package/pdf/ic/code/plqp0064ga_a.pdf
footprint PLQP0064GA-A_N (QFP, 64-Leads, Body 14x14mm, Pitch 0.8mm, IPC Medium Density)
footprint PLQP0064GA-A_L (QFP, 64-Leads, Body 14x14mm, Pitch 0.8mm, IPC High Density)
footprint PLQP0064GA-A_M (QFP, 64-Leads, Body 14x14mm, Pitch 0.8mm, IPC Low Density)
pins: 1 P6_2 / AN2 (io), 2 P6_1 / AN1 (io), 3 P6_0 / AN0 (io), 4 P5_7 / INT3 (io), 5 P5_6 / PWM (io), 6 P5_5 / CNTR1 (io), 7 P5_4 / CNTR0 (io), 8 P5_3 / ~{SRDY}2 (io), 9 P5_2 / SCLK2 (io), 10 P5_1 / SOUT2 (io), 11 P5_0 / SIN2 (io), 12 P4_7 / ~{SRDY}1 / CNTR2 (io), 13 P4_6 / SCLK1 (io), 14 P4_5 / TXD1 (io), 15 P4_4 / RXD1 (io), 16 P4_3 / INT2 (io), 17 P4_2 / INT1 (io), 18 CNVSS (power), 19 ~{RESET} (in), 20 P4_1 / INT00 / XCIN (io), 21 P4_0 / INT40 / XCOUT (io), 22 XIN (in), 23 XOUT (out), 24 VSS (power), 25 P2_7 (LED7) (io), 26 P2_6 (LED6) (io), 27 P2_5 (LED5) (io), 28 P2_4 (LED4) (io), 29 P2_3 (LED3) (io), 30 P2_2 (LED2) (io), 31 P2_1 (LED1) (io), 32 P2_0 (LED0) (io), 33 P1_7 (io), 34 P1_6 (io), 35 P1_5 (io), 36 P1_4 (io), 37 P1_3 (io), 38 P1_2 (io), 39 P1_1 / INT01 (io), 40 P1_0 / INT41 (io), 41 P0_7 / AN15 (io), 42 P0_6 / AN14 (io), 43 P0_5 / AN13 (io), 44 P0_4 / AN12 (io), 45 P0_3 / AN11 (io), 46 P0_2 / AN10 (io), 47 P0_1 / AN9 (io), 48 P0_0 / AN8 (io), 49 P3_7 / ~{SRDY}3 (io), 50 P3_6 / SCLK3 (io), 51 P3_5 / TXD3 (io), 52 P3_4 / RXD3 (io), 53 P3_3 (io), 54 P3_2 (io), 55 P3_1 / DA2 (io), 56 P3_0 / DA1 (io), 57 VCC (power), 58 VREF (in), 59 AVSS (power), 60 P6_7 / AN7 (io), 61 P6_6 / AN6 (io), 62 P6_5 / AN5 (io), 63 P6_4 / AN4 (io), 64 P6_3 / AN3 (io)

## M38039G4HHP
designator U?
Spec.H QzROM 8-BIT CMOS Microcomputer, 38000/740 Series CPU, 3803 Group, 16K ROM, 2K RAM, 64P6Q-A Pkg, user ROM blank; Published: 28-Aug-2009; DatasheetVersion: Rev.1.13, Aug-2009; PackageVersion: Sep-2005; PackageReference: PLQP0064KB-A; Publisher: Altium Limited; PackageDescription: 64-Pin Plastic Low Profile QFP, 10 x 10 x 1.4 mm Body, 0.5 mm Pitch; Code_JEITA: P-LQFP64-10x10-0.50; Code_IPC: SQFP50P1200X1200-64; ComponentLink1Description: Manufacturer Link; ComponentLink1URL: http://sg.renesas.com/fmwk.jsp?cnt=740_family_landing.jsp&fp=/products/mpumcu/740_family/; ComponentLink2Description: Datasheet; ComponentLink2URL: http://documentation.renesas.com/eng/products/mpumcu/rej03b0166_3803hqzds.pdf; ComponentLink3Description: Packaging Specification; ComponentLink3URL: http://sg.renesas.com/media/products/common_info/package/pdf/ic/code/plqp0064kb_a.pdf
footprint PLQP0064KB-A_N (Shrink QFP, 64-Leads, Body 10x10mm, Pitch 0.5mm, IPC Medium Density)
footprint PLQP0064KB-A_L (Shrink QFP, 64-Leads, Body 10x10mm, Pitch 0.5mm, IPC High Density)
footprint PLQP0064KB-A_M (Shrink QFP, 64-Leads, Body 10x10mm, Pitch 0.5mm, IPC Low Density)
pins: 1 P6_2 / AN2 (io), 2 P6_1 / AN1 (io), 3 P6_0 / AN0 (io), 4 P5_7 / INT3 (io), 5 P5_6 / PWM (io), 6 P5_5 / CNTR1 (io), 7 P5_4 / CNTR0 (io), 8 P5_3 / ~{SRDY}2 (io), 9 P5_2 / SCLK2 (io), 10 P5_1 / SOUT2 (io), 11 P5_0 / SIN2 (io), 12 P4_7 / ~{SRDY}1 / CNTR2 (io), 13 P4_6 / SCLK1 (io), 14 P4_5 / TXD1 (io), 15 P4_4 / RXD1 (io), 16 P4_3 / INT2 (io), 17 P4_2 / INT1 (io), 18 CNVSS (power), 19 ~{RESET} (in), 20 P4_1 / INT00 / XCIN (io), 21 P4_0 / INT40 / XCOUT (io), 22 XIN (in), 23 XOUT (out), 24 VSS (power), 25 P2_7 (LED7) (io), 26 P2_6 (LED6) (io), 27 P2_5 (LED5) (io), 28 P2_4 (LED4) (io), 29 P2_3 (LED3) (io), 30 P2_2 (LED2) (io), 31 P2_1 (LED1) (io), 32 P2_0 (LED0) (io), 33 P1_7 (io), 34 P1_6 (io), 35 P1_5 (io), 36 P1_4 (io), 37 P1_3 (io), 38 P1_2 (io), 39 P1_1 / INT01 (io), 40 P1_0 / INT41 (io), 41 P0_7 / AN15 (io), 42 P0_6 / AN14 (io), 43 P0_5 / AN13 (io), 44 P0_4 / AN12 (io), 45 P0_3 / AN11 (io), 46 P0_2 / AN10 (io), 47 P0_1 / AN9 (io), 48 P0_0 / AN8 (io), 49 P3_7 / ~{SRDY}3 (io), 50 P3_6 / SCLK3 (io), 51 P3_5 / TXD3 (io), 52 P3_4 / RXD3 (io), 53 P3_3 (io), 54 P3_2 (io), 55 P3_1 / DA2 (io), 56 P3_0 / DA1 (io), 57 VCC (power), 58 VREF (in), 59 AVSS (power), 60 P6_7 / AN7 (io), 61 P6_6 / AN6 (io), 62 P6_5 / AN5 (io), 63 P6_4 / AN4 (io), 64 P6_3 / AN3 (io)

## M38039G4HKP
designator U?
Spec.H QzROM 8-BIT CMOS Microcomputer, 38000/740 Series CPU, 3803 Group, 16K ROM, 2K RAM, 64P6U-A Pkg, user ROM blank; Published: 28-Aug-2009; DatasheetVersion: Rev.1.13, Aug-2009; PackageVersion: Oct-2005; PackageReference: PLQP0064GA-A; Publisher: Altium Limited; PackageDescription: 64-Pin Plastic Low Profile QFP, 14 x 14 x 1.4 mm Body, 0.8 mm Pitch; Code_JEITA: P-LQFP64-14x14-0.80; ComponentLink1Description: Manufacturer Link; ComponentLink1URL: http://sg.renesas.com/fmwk.jsp?cnt=740_family_landing.jsp&fp=/products/mpumcu/740_family/; ComponentLink2Description: Datasheet; ComponentLink2URL: http://documentation.renesas.com/eng/products/mpumcu/rej03b0166_3803hqzds.pdf; ComponentLink3Description: Packaging Specification; ComponentLink3URL: http://sg.renesas.com/media/products/common_info/package/pdf/ic/code/plqp0064ga_a.pdf
footprint PLQP0064GA-A_N (QFP, 64-Leads, Body 14x14mm, Pitch 0.8mm, IPC Medium Density)
footprint PLQP0064GA-A_L (QFP, 64-Leads, Body 14x14mm, Pitch 0.8mm, IPC High Density)
footprint PLQP0064GA-A_M (QFP, 64-Leads, Body 14x14mm, Pitch 0.8mm, IPC Low Density)
pins: 1 P6_2 / AN2 (io), 2 P6_1 / AN1 (io), 3 P6_0 / AN0 (io), 4 P5_7 / INT3 (io), 5 P5_6 / PWM (io), 6 P5_5 / CNTR1 (io), 7 P5_4 / CNTR0 (io), 8 P5_3 / ~{SRDY}2 (io), 9 P5_2 / SCLK2 (io), 10 P5_1 / SOUT2 (io), 11 P5_0 / SIN2 (io), 12 P4_7 / ~{SRDY}1 / CNTR2 (io), 13 P4_6 / SCLK1 (io), 14 P4_5 / TXD1 (io), 15 P4_4 / RXD1 (io), 16 P4_3 / INT2 (io), 17 P4_2 / INT1 (io), 18 CNVSS (power), 19 ~{RESET} (in), 20 P4_1 / INT00 / XCIN (io), 21 P4_0 / INT40 / XCOUT (io), 22 XIN (in), 23 XOUT (out), 24 VSS (power), 25 P2_7 (LED7) (io), 26 P2_6 (LED6) (io), 27 P2_5 (LED5) (io), 28 P2_4 (LED4) (io), 29 P2_3 (LED3) (io), 30 P2_2 (LED2) (io), 31 P2_1 (LED1) (io), 32 P2_0 (LED0) (io), 33 P1_7 (io), 34 P1_6 (io), 35 P1_5 (io), 36 P1_4 (io), 37 P1_3 (io), 38 P1_2 (io), 39 P1_1 / INT01 (io), 40 P1_0 / INT41 (io), 41 P0_7 / AN15 (io), 42 P0_6 / AN14 (io), 43 P0_5 / AN13 (io), 44 P0_4 / AN12 (io), 45 P0_3 / AN11 (io), 46 P0_2 / AN10 (io), 47 P0_1 / AN9 (io), 48 P0_0 / AN8 (io), 49 P3_7 / ~{SRDY}3 (io), 50 P3_6 / SCLK3 (io), 51 P3_5 / TXD3 (io), 52 P3_4 / RXD3 (io), 53 P3_3 (io), 54 P3_2 (io), 55 P3_1 / DA2 (io), 56 P3_0 / DA1 (io), 57 VCC (power), 58 VREF (in), 59 AVSS (power), 60 P6_7 / AN7 (io), 61 P6_6 / AN6 (io), 62 P6_5 / AN5 (io), 63 P6_4 / AN4 (io), 64 P6_3 / AN3 (io)

## M38039G4HSP
designator U?
Spec.H QzROM 8-BIT CMOS Microcomputer, 38000/740 Series CPU, 3803 Group, 16K ROM, 2K RAM, 64P4B Pkg, user ROM blank; Published: 28-Aug-2009; DatasheetVersion: Rev.1.13, Aug-2009; PackageVersion: Sep-2005; PackageReference: PRDP0064BA-A; Publisher: Altium Limited; PackageDescription: 64-Pin Plastic Shrink DIP, 56.4 x 17 mm Body, 19.05 mm Row Spacing , 1.778 mm Pitch; Code_JEITA: P-SDIP64-17x56.4-1.78; ComponentLink1Description: Manufacturer Link; ComponentLink1URL: http://sg.renesas.com/fmwk.jsp?cnt=740_family_landing.jsp&fp=/products/mpumcu/740_family/; ComponentLink2Description: Datasheet; ComponentLink2URL: http://documentation.renesas.com/eng/products/mpumcu/rej03b0166_3803hqzds.pdf; ComponentLink3Description: Packaging Specification; ComponentLink3URL: http://sg.renesas.com/media/products/common_info/package/pdf/ic/code/prdp0064ba_a.pdf
footprint PRDP0064BA-A (DIP, 64-Leads, Row Spacing 19.05mm, Pitch 1.778mm, Body 56.4x17mm)
pins: 1 VCC (power), 2 VREF (in), 3 AVSS (power), 4 P6_7 / AN7 (io), 5 P6_6 / AN6 (io), 6 P6_5 / AN5 (io), 7 P6_4 / AN4 (io), 8 P6_3 / AN3 (io), 9 P6_2 / AN2 (io), 10 P6_1 / AN1 (io), 11 P6_0 / AN0 (io), 12 P5_7 / INT3 (io), 13 P5_6 / PWM (io), 14 P5_5 / CNTR1 (io), 15 P5_4 / CNTR0 (io), 16 P5_3 / ~{SRDY}2 (io), 17 P5_2 / SCLK2 (io), 18 P5_1 / SOUT2 (io), 19 P5_0 / SIN2 (io), 20 P4_7 / ~{SRDY}1 / CNTR2 (io), 21 P4_6 / SCLK1 (io), 22 P4_5 / TXD1 (io), 23 P4_4 / RXD1 (io), 24 P4_3 / INT2 (io), 25 P4_2 / INT1 (io), 26 CNVSS (power), 27 ~{RESET} (in), 28 P4_1 / INT00 / XCIN (io), 29 P4_0 / INT40 / XCOUT (io), 30 XIN (in), 31 XOUT (out), 32 VSS (power), 33 P2_7 (LED7) (io), 34 P2_6 (LED6) (io), 35 P2_5 (LED5) (io), 36 P2_4 (LED4) (io), 37 P2_3 (LED3) (io), 38 P2_2 (LED2) (io), 39 P2_1 (LED1) (io), 40 P2_0 (LED0) (io), 41 P1_7 (io), 42 P1_6 (io), 43 P1_5 (io), 44 P1_4 (io), 45 P1_3 (io), 46 P1_2 (io), 47 P1_1 / INT01 (io), 48 P1_0 / INT41 (io), 49 P0_7 / AN15 (io), 50 P0_6 / AN14 (io), 51 P0_5 / AN13 (io), 52 P0_4 / AN12 (io), 53 P0_3 / AN11 (io), 54 P0_2 / AN10 (io), 55 P0_1 / AN9 (io), 56 P0_0 / AN8 (io), 57 P3_7 / ~{SRDY}3 (io), 58 P3_6 / SCLK3 (io), 59 P3_5 / TXD3 (io), 60 P3_4 / RXD3 (io), 61 P3_3 (io), 62 P3_2 (io), 63 P3_1 / DA2 (io), 64 P3_0 / DA1 (io)

## M38039G6H-XXXHP
designator U?
Spec.H QzROM 8-BIT CMOS Microcomputer, 38000/740 Series CPU, 3803 Group, 24K ROM, 2K RAM, 64P6Q-A Pkg, user ROM programmed; Published: 28-Aug-2009; DatasheetVersion: Rev.1.13, Aug-2009; PackageVersion: Sep-2005; PackageReference: PLQP0064KB-A; Publisher: Altium Limited; PackageDescription: 64-Pin Plastic Low Profile QFP, 10 x 10 x 1.4 mm Body, 0.5 mm Pitch; Code_JEITA: P-LQFP64-10x10-0.50; Code_IPC: SQFP50P1200X1200-64; ComponentLink1Description: Manufacturer Link; ComponentLink1URL: http://sg.renesas.com/fmwk.jsp?cnt=740_family_landing.jsp&fp=/products/mpumcu/740_family/; ComponentLink2Description: Datasheet; ComponentLink2URL: http://documentation.renesas.com/eng/products/mpumcu/rej03b0166_3803hqzds.pdf; ComponentLink3Description: Packaging Specification; ComponentLink3URL: http://sg.renesas.com/media/products/common_info/package/pdf/ic/code/plqp0064kb_a.pdf
footprint PLQP0064KB-A_N (Shrink QFP, 64-Leads, Body 10x10mm, Pitch 0.5mm, IPC Medium Density)
footprint PLQP0064KB-A_L (Shrink QFP, 64-Leads, Body 10x10mm, Pitch 0.5mm, IPC High Density)
footprint PLQP0064KB-A_M (Shrink QFP, 64-Leads, Body 10x10mm, Pitch 0.5mm, IPC Low Density)
pins: 1 P6_2 / AN2 (io), 2 P6_1 / AN1 (io), 3 P6_0 / AN0 (io), 4 P5_7 / INT3 (io), 5 P5_6 / PWM (io), 6 P5_5 / CNTR1 (io), 7 P5_4 / CNTR0 (io), 8 P5_3 / ~{SRDY}2 (io), 9 P5_2 / SCLK2 (io), 10 P5_1 / SOUT2 (io), 11 P5_0 / SIN2 (io), 12 P4_7 / ~{SRDY}1 / CNTR2 (io), 13 P4_6 / SCLK1 (io), 14 P4_5 / TXD1 (io), 15 P4_4 / RXD1 (io), 16 P4_3 / INT2 (io), 17 P4_2 / INT1 (io), 18 CNVSS (power), 19 ~{RESET} (in), 20 P4_1 / INT00 / XCIN (io), 21 P4_0 / INT40 / XCOUT (io), 22 XIN (in), 23 XOUT (out), 24 VSS (power), 25 P2_7 (LED7) (io), 26 P2_6 (LED6) (io), 27 P2_5 (LED5) (io), 28 P2_4 (LED4) (io), 29 P2_3 (LED3) (io), 30 P2_2 (LED2) (io), 31 P2_1 (LED1) (io), 32 P2_0 (LED0) (io), 33 P1_7 (io), 34 P1_6 (io), 35 P1_5 (io), 36 P1_4 (io), 37 P1_3 (io), 38 P1_2 (io), 39 P1_1 / INT01 (io), 40 P1_0 / INT41 (io), 41 P0_7 / AN15 (io), 42 P0_6 / AN14 (io), 43 P0_5 / AN13 (io), 44 P0_4 / AN12 (io), 45 P0_3 / AN11 (io), 46 P0_2 / AN10 (io), 47 P0_1 / AN9 (io), 48 P0_0 / AN8 (io), 49 P3_7 / ~{SRDY}3 (io), 50 P3_6 / SCLK3 (io), 51 P3_5 / TXD3 (io), 52 P3_4 / RXD3 (io), 53 P3_3 (io), 54 P3_2 (io), 55 P3_1 / DA2 (io), 56 P3_0 / DA1 (io), 57 VCC (power), 58 VREF (in), 59 AVSS (power), 60 P6_7 / AN7 (io), 61 P6_6 / AN6 (io), 62 P6_5 / AN5 (io), 63 P6_4 / AN4 (io), 64 P6_3 / AN3 (io)

## M38039G6H-XXXKP
designator U?
Spec.H QzROM 8-BIT CMOS Microcomputer, 38000/740 Series CPU, 3803 Group, 24K ROM, 2K RAM, 64P6U-A Pkg, user ROM programmed; Published: 28-Aug-2009; DatasheetVersion: Rev.1.13, Aug-2009; PackageVersion: Oct-2005; PackageReference: PLQP0064GA-A; Publisher: Altium Limited; PackageDescription: 64-Pin Plastic Low Profile QFP, 14 x 14 x 1.4 mm Body, 0.8 mm Pitch; Code_JEITA: P-LQFP64-14x14-0.80; ComponentLink1Description: Manufacturer Link; ComponentLink1URL: http://sg.renesas.com/fmwk.jsp?cnt=740_family_landing.jsp&fp=/products/mpumcu/740_family/; ComponentLink2Description: Datasheet; ComponentLink2URL: http://documentation.renesas.com/eng/products/mpumcu/rej03b0166_3803hqzds.pdf; ComponentLink3Description: Packaging Specification; ComponentLink3URL: http://sg.renesas.com/media/products/common_info/package/pdf/ic/code/plqp0064ga_a.pdf
footprint PLQP0064GA-A_N (QFP, 64-Leads, Body 14x14mm, Pitch 0.8mm, IPC Medium Density)
footprint PLQP0064GA-A_L (QFP, 64-Leads, Body 14x14mm, Pitch 0.8mm, IPC High Density)
footprint PLQP0064GA-A_M (QFP, 64-Leads, Body 14x14mm, Pitch 0.8mm, IPC Low Density)
pins: 1 P6_2 / AN2 (io), 2 P6_1 / AN1 (io), 3 P6_0 / AN0 (io), 4 P5_7 / INT3 (io), 5 P5_6 / PWM (io), 6 P5_5 / CNTR1 (io), 7 P5_4 / CNTR0 (io), 8 P5_3 / ~{SRDY}2 (io), 9 P5_2 / SCLK2 (io), 10 P5_1 / SOUT2 (io), 11 P5_0 / SIN2 (io), 12 P4_7 / ~{SRDY}1 / CNTR2 (io), 13 P4_6 / SCLK1 (io), 14 P4_5 / TXD1 (io), 15 P4_4 / RXD1 (io), 16 P4_3 / INT2 (io), 17 P4_2 / INT1 (io), 18 CNVSS (power), 19 ~{RESET} (in), 20 P4_1 / INT00 / XCIN (io), 21 P4_0 / INT40 / XCOUT (io), 22 XIN (in), 23 XOUT (out), 24 VSS (power), 25 P2_7 (LED7) (io), 26 P2_6 (LED6) (io), 27 P2_5 (LED5) (io), 28 P2_4 (LED4) (io), 29 P2_3 (LED3) (io), 30 P2_2 (LED2) (io), 31 P2_1 (LED1) (io), 32 P2_0 (LED0) (io), 33 P1_7 (io), 34 P1_6 (io), 35 P1_5 (io), 36 P1_4 (io), 37 P1_3 (io), 38 P1_2 (io), 39 P1_1 / INT01 (io), 40 P1_0 / INT41 (io), 41 P0_7 / AN15 (io), 42 P0_6 / AN14 (io), 43 P0_5 / AN13 (io), 44 P0_4 / AN12 (io), 45 P0_3 / AN11 (io), 46 P0_2 / AN10 (io), 47 P0_1 / AN9 (io), 48 P0_0 / AN8 (io), 49 P3_7 / ~{SRDY}3 (io), 50 P3_6 / SCLK3 (io), 51 P3_5 / TXD3 (io), 52 P3_4 / RXD3 (io), 53 P3_3 (io), 54 P3_2 (io), 55 P3_1 / DA2 (io), 56 P3_0 / DA1 (io), 57 VCC (power), 58 VREF (in), 59 AVSS (power), 60 P6_7 / AN7 (io), 61 P6_6 / AN6 (io), 62 P6_5 / AN5 (io), 63 P6_4 / AN4 (io), 64 P6_3 / AN3 (io)

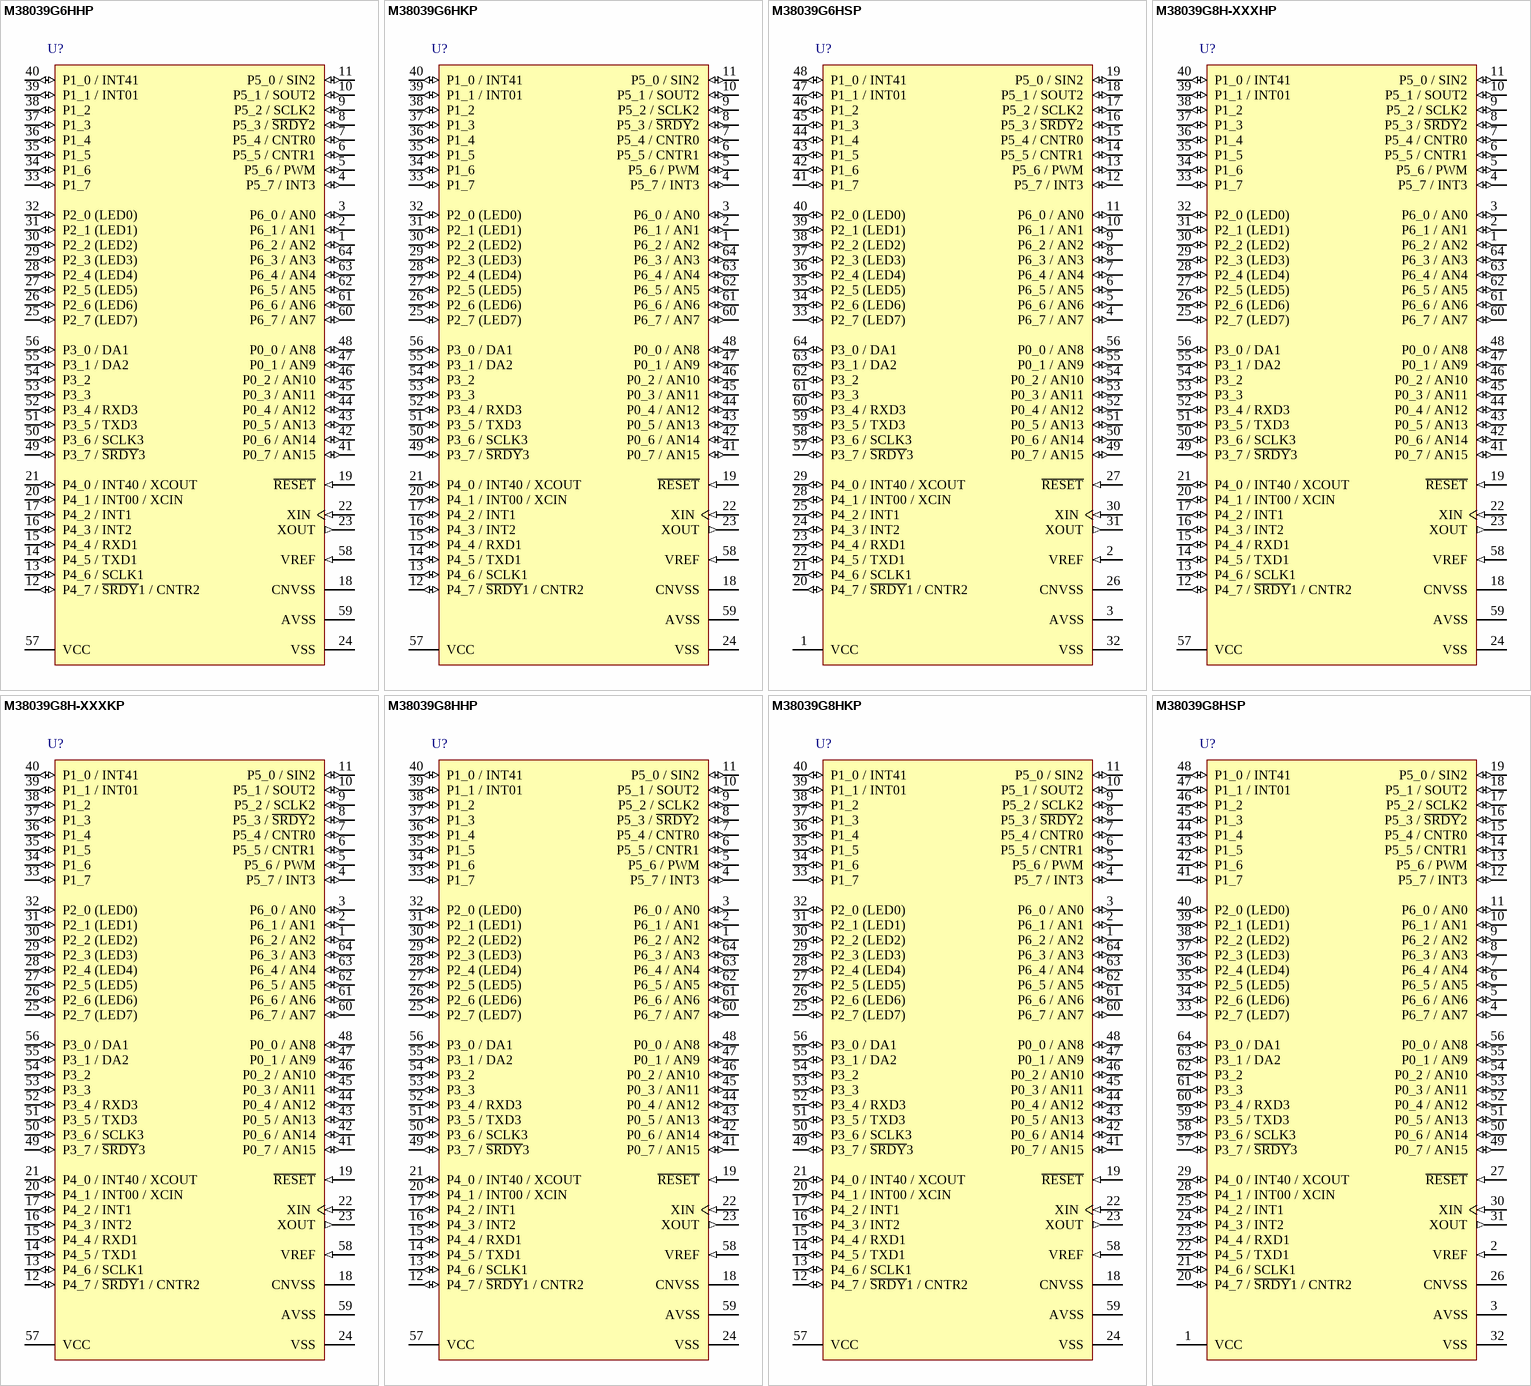
[diagram p23: symbols M38039G6HHP to M38039G8HSP]

## M38039G6HHP
designator U?
Spec.H QzROM 8-BIT CMOS Microcomputer, 38000/740 Series CPU, 3803 Group, 24K ROM, 2K RAM, 64P6Q-A Pkg, user ROM blank; Published: 28-Aug-2009; DatasheetVersion: Rev.1.13, Aug-2009; PackageVersion: Sep-2005; PackageReference: PLQP0064KB-A; Publisher: Altium Limited; PackageDescription: 64-Pin Plastic Low Profile QFP, 10 x 10 x 1.4 mm Body, 0.5 mm Pitch; Code_JEITA: P-LQFP64-10x10-0.50; Code_IPC: SQFP50P1200X1200-64; ComponentLink1Description: Manufacturer Link; ComponentLink1URL: http://sg.renesas.com/fmwk.jsp?cnt=740_family_landing.jsp&fp=/products/mpumcu/740_family/; ComponentLink2Description: Datasheet; ComponentLink2URL: http://documentation.renesas.com/eng/products/mpumcu/rej03b0166_3803hqzds.pdf; ComponentLink3Description: Packaging Specification; ComponentLink3URL: http://sg.renesas.com/media/products/common_info/package/pdf/ic/code/plqp0064kb_a.pdf
footprint PLQP0064KB-A_N (Shrink QFP, 64-Leads, Body 10x10mm, Pitch 0.5mm, IPC Medium Density)
footprint PLQP0064KB-A_L (Shrink QFP, 64-Leads, Body 10x10mm, Pitch 0.5mm, IPC High Density)
footprint PLQP0064KB-A_M (Shrink QFP, 64-Leads, Body 10x10mm, Pitch 0.5mm, IPC Low Density)
pins: 1 P6_2 / AN2 (io), 2 P6_1 / AN1 (io), 3 P6_0 / AN0 (io), 4 P5_7 / INT3 (io), 5 P5_6 / PWM (io), 6 P5_5 / CNTR1 (io), 7 P5_4 / CNTR0 (io), 8 P5_3 / ~{SRDY}2 (io), 9 P5_2 / SCLK2 (io), 10 P5_1 / SOUT2 (io), 11 P5_0 / SIN2 (io), 12 P4_7 / ~{SRDY}1 / CNTR2 (io), 13 P4_6 / SCLK1 (io), 14 P4_5 / TXD1 (io), 15 P4_4 / RXD1 (io), 16 P4_3 / INT2 (io), 17 P4_2 / INT1 (io), 18 CNVSS (power), 19 ~{RESET} (in), 20 P4_1 / INT00 / XCIN (io), 21 P4_0 / INT40 / XCOUT (io), 22 XIN (in), 23 XOUT (out), 24 VSS (power), 25 P2_7 (LED7) (io), 26 P2_6 (LED6) (io), 27 P2_5 (LED5) (io), 28 P2_4 (LED4) (io), 29 P2_3 (LED3) (io), 30 P2_2 (LED2) (io), 31 P2_1 (LED1) (io), 32 P2_0 (LED0) (io), 33 P1_7 (io), 34 P1_6 (io), 35 P1_5 (io), 36 P1_4 (io), 37 P1_3 (io), 38 P1_2 (io), 39 P1_1 / INT01 (io), 40 P1_0 / INT41 (io), 41 P0_7 / AN15 (io), 42 P0_6 / AN14 (io), 43 P0_5 / AN13 (io), 44 P0_4 / AN12 (io), 45 P0_3 / AN11 (io), 46 P0_2 / AN10 (io), 47 P0_1 / AN9 (io), 48 P0_0 / AN8 (io), 49 P3_7 / ~{SRDY}3 (io), 50 P3_6 / SCLK3 (io), 51 P3_5 / TXD3 (io), 52 P3_4 / RXD3 (io), 53 P3_3 (io), 54 P3_2 (io), 55 P3_1 / DA2 (io), 56 P3_0 / DA1 (io), 57 VCC (power), 58 VREF (in), 59 AVSS (power), 60 P6_7 / AN7 (io), 61 P6_6 / AN6 (io), 62 P6_5 / AN5 (io), 63 P6_4 / AN4 (io), 64 P6_3 / AN3 (io)

## M38039G6HKP
designator U?
Spec.H QzROM 8-BIT CMOS Microcomputer, 38000/740 Series CPU, 3803 Group, 24K ROM, 2K RAM, 64P6U-A Pkg, user ROM blank; Published: 28-Aug-2009; DatasheetVersion: Rev.1.13, Aug-2009; PackageVersion: Oct-2005; PackageReference: PLQP0064GA-A; Publisher: Altium Limited; PackageDescription: 64-Pin Plastic Low Profile QFP, 14 x 14 x 1.4 mm Body, 0.8 mm Pitch; Code_JEITA: P-LQFP64-14x14-0.80; ComponentLink1Description: Manufacturer Link; ComponentLink1URL: http://sg.renesas.com/fmwk.jsp?cnt=740_family_landing.jsp&fp=/products/mpumcu/740_family/; ComponentLink2Description: Datasheet; ComponentLink2URL: http://documentation.renesas.com/eng/products/mpumcu/rej03b0166_3803hqzds.pdf; ComponentLink3Description: Packaging Specification; ComponentLink3URL: http://sg.renesas.com/media/products/common_info/package/pdf/ic/code/plqp0064ga_a.pdf
footprint PLQP0064GA-A_N (QFP, 64-Leads, Body 14x14mm, Pitch 0.8mm, IPC Medium Density)
footprint PLQP0064GA-A_L (QFP, 64-Leads, Body 14x14mm, Pitch 0.8mm, IPC High Density)
footprint PLQP0064GA-A_M (QFP, 64-Leads, Body 14x14mm, Pitch 0.8mm, IPC Low Density)
pins: 1 P6_2 / AN2 (io), 2 P6_1 / AN1 (io), 3 P6_0 / AN0 (io), 4 P5_7 / INT3 (io), 5 P5_6 / PWM (io), 6 P5_5 / CNTR1 (io), 7 P5_4 / CNTR0 (io), 8 P5_3 / ~{SRDY}2 (io), 9 P5_2 / SCLK2 (io), 10 P5_1 / SOUT2 (io), 11 P5_0 / SIN2 (io), 12 P4_7 / ~{SRDY}1 / CNTR2 (io), 13 P4_6 / SCLK1 (io), 14 P4_5 / TXD1 (io), 15 P4_4 / RXD1 (io), 16 P4_3 / INT2 (io), 17 P4_2 / INT1 (io), 18 CNVSS (power), 19 ~{RESET} (in), 20 P4_1 / INT00 / XCIN (io), 21 P4_0 / INT40 / XCOUT (io), 22 XIN (in), 23 XOUT (out), 24 VSS (power), 25 P2_7 (LED7) (io), 26 P2_6 (LED6) (io), 27 P2_5 (LED5) (io), 28 P2_4 (LED4) (io), 29 P2_3 (LED3) (io), 30 P2_2 (LED2) (io), 31 P2_1 (LED1) (io), 32 P2_0 (LED0) (io), 33 P1_7 (io), 34 P1_6 (io), 35 P1_5 (io), 36 P1_4 (io), 37 P1_3 (io), 38 P1_2 (io), 39 P1_1 / INT01 (io), 40 P1_0 / INT41 (io), 41 P0_7 / AN15 (io), 42 P0_6 / AN14 (io), 43 P0_5 / AN13 (io), 44 P0_4 / AN12 (io), 45 P0_3 / AN11 (io), 46 P0_2 / AN10 (io), 47 P0_1 / AN9 (io), 48 P0_0 / AN8 (io), 49 P3_7 / ~{SRDY}3 (io), 50 P3_6 / SCLK3 (io), 51 P3_5 / TXD3 (io), 52 P3_4 / RXD3 (io), 53 P3_3 (io), 54 P3_2 (io), 55 P3_1 / DA2 (io), 56 P3_0 / DA1 (io), 57 VCC (power), 58 VREF (in), 59 AVSS (power), 60 P6_7 / AN7 (io), 61 P6_6 / AN6 (io), 62 P6_5 / AN5 (io), 63 P6_4 / AN4 (io), 64 P6_3 / AN3 (io)

## M38039G6HSP
designator U?
Spec.H QzROM 8-BIT CMOS Microcomputer, 38000/740 Series CPU, 3803 Group, 24K ROM, 2K RAM, 64P4B Pkg, user ROM blank; Published: 28-Aug-2009; DatasheetVersion: Rev.1.13, Aug-2009; PackageVersion: Sep-2005; PackageReference: PRDP0064BA-A; Publisher: Altium Limited; PackageDescription: 64-Pin Plastic Shrink DIP, 56.4 x 17 mm Body, 19.05 mm Row Spacing , 1.778 mm Pitch; Code_JEITA: P-SDIP64-17x56.4-1.78; ComponentLink1Description: Manufacturer Link; ComponentLink1URL: http://sg.renesas.com/fmwk.jsp?cnt=740_family_landing.jsp&fp=/products/mpumcu/740_family/; ComponentLink2Description: Datasheet; ComponentLink2URL: http://documentation.renesas.com/eng/products/mpumcu/rej03b0166_3803hqzds.pdf; ComponentLink3Description: Packaging Specification; ComponentLink3URL: http://sg.renesas.com/media/products/common_info/package/pdf/ic/code/prdp0064ba_a.pdf
footprint PRDP0064BA-A (DIP, 64-Leads, Row Spacing 19.05mm, Pitch 1.778mm, Body 56.4x17mm)
pins: 1 VCC (power), 2 VREF (in), 3 AVSS (power), 4 P6_7 / AN7 (io), 5 P6_6 / AN6 (io), 6 P6_5 / AN5 (io), 7 P6_4 / AN4 (io), 8 P6_3 / AN3 (io), 9 P6_2 / AN2 (io), 10 P6_1 / AN1 (io), 11 P6_0 / AN0 (io), 12 P5_7 / INT3 (io), 13 P5_6 / PWM (io), 14 P5_5 / CNTR1 (io), 15 P5_4 / CNTR0 (io), 16 P5_3 / ~{SRDY}2 (io), 17 P5_2 / SCLK2 (io), 18 P5_1 / SOUT2 (io), 19 P5_0 / SIN2 (io), 20 P4_7 / ~{SRDY}1 / CNTR2 (io), 21 P4_6 / SCLK1 (io), 22 P4_5 / TXD1 (io), 23 P4_4 / RXD1 (io), 24 P4_3 / INT2 (io), 25 P4_2 / INT1 (io), 26 CNVSS (power), 27 ~{RESET} (in), 28 P4_1 / INT00 / XCIN (io), 29 P4_0 / INT40 / XCOUT (io), 30 XIN (in), 31 XOUT (out), 32 VSS (power), 33 P2_7 (LED7) (io), 34 P2_6 (LED6) (io), 35 P2_5 (LED5) (io), 36 P2_4 (LED4) (io), 37 P2_3 (LED3) (io), 38 P2_2 (LED2) (io), 39 P2_1 (LED1) (io), 40 P2_0 (LED0) (io), 41 P1_7 (io), 42 P1_6 (io), 43 P1_5 (io), 44 P1_4 (io), 45 P1_3 (io), 46 P1_2 (io), 47 P1_1 / INT01 (io), 48 P1_0 / INT41 (io), 49 P0_7 / AN15 (io), 50 P0_6 / AN14 (io), 51 P0_5 / AN13 (io), 52 P0_4 / AN12 (io), 53 P0_3 / AN11 (io), 54 P0_2 / AN10 (io), 55 P0_1 / AN9 (io), 56 P0_0 / AN8 (io), 57 P3_7 / ~{SRDY}3 (io), 58 P3_6 / SCLK3 (io), 59 P3_5 / TXD3 (io), 60 P3_4 / RXD3 (io), 61 P3_3 (io), 62 P3_2 (io), 63 P3_1 / DA2 (io), 64 P3_0 / DA1 (io)

## M38039G8H-XXXHP
designator U?
Spec.H QzROM 8-BIT CMOS Microcomputer, 38000/740 Series CPU, 3803 Group, 32K ROM, 2K RAM, 64P6Q-A Pkg, user ROM programmed; Published: 28-Aug-2009; DatasheetVersion: Rev.1.13, Aug-2009; PackageVersion: Sep-2005; PackageReference: PLQP0064KB-A; Publisher: Altium Limited; PackageDescription: 64-Pin Plastic Low Profile QFP, 10 x 10 x 1.4 mm Body, 0.5 mm Pitch; Code_JEITA: P-LQFP64-10x10-0.50; Code_IPC: SQFP50P1200X1200-64; ComponentLink1Description: Manufacturer Link; ComponentLink1URL: http://sg.renesas.com/fmwk.jsp?cnt=740_family_landing.jsp&fp=/products/mpumcu/740_family/; ComponentLink2Description: Datasheet; ComponentLink2URL: http://documentation.renesas.com/eng/products/mpumcu/rej03b0166_3803hqzds.pdf; ComponentLink3Description: Packaging Specification; ComponentLink3URL: http://sg.renesas.com/media/products/common_info/package/pdf/ic/code/plqp0064kb_a.pdf
footprint PLQP0064KB-A_N (Shrink QFP, 64-Leads, Body 10x10mm, Pitch 0.5mm, IPC Medium Density)
footprint PLQP0064KB-A_L (Shrink QFP, 64-Leads, Body 10x10mm, Pitch 0.5mm, IPC High Density)
footprint PLQP0064KB-A_M (Shrink QFP, 64-Leads, Body 10x10mm, Pitch 0.5mm, IPC Low Density)
pins: 1 P6_2 / AN2 (io), 2 P6_1 / AN1 (io), 3 P6_0 / AN0 (io), 4 P5_7 / INT3 (io), 5 P5_6 / PWM (io), 6 P5_5 / CNTR1 (io), 7 P5_4 / CNTR0 (io), 8 P5_3 / ~{SRDY}2 (io), 9 P5_2 / SCLK2 (io), 10 P5_1 / SOUT2 (io), 11 P5_0 / SIN2 (io), 12 P4_7 / ~{SRDY}1 / CNTR2 (io), 13 P4_6 / SCLK1 (io), 14 P4_5 / TXD1 (io), 15 P4_4 / RXD1 (io), 16 P4_3 / INT2 (io), 17 P4_2 / INT1 (io), 18 CNVSS (power), 19 ~{RESET} (in), 20 P4_1 / INT00 / XCIN (io), 21 P4_0 / INT40 / XCOUT (io), 22 XIN (in), 23 XOUT (out), 24 VSS (power), 25 P2_7 (LED7) (io), 26 P2_6 (LED6) (io), 27 P2_5 (LED5) (io), 28 P2_4 (LED4) (io), 29 P2_3 (LED3) (io), 30 P2_2 (LED2) (io), 31 P2_1 (LED1) (io), 32 P2_0 (LED0) (io), 33 P1_7 (io), 34 P1_6 (io), 35 P1_5 (io), 36 P1_4 (io), 37 P1_3 (io), 38 P1_2 (io), 39 P1_1 / INT01 (io), 40 P1_0 / INT41 (io), 41 P0_7 / AN15 (io), 42 P0_6 / AN14 (io), 43 P0_5 / AN13 (io), 44 P0_4 / AN12 (io), 45 P0_3 / AN11 (io), 46 P0_2 / AN10 (io), 47 P0_1 / AN9 (io), 48 P0_0 / AN8 (io), 49 P3_7 / ~{SRDY}3 (io), 50 P3_6 / SCLK3 (io), 51 P3_5 / TXD3 (io), 52 P3_4 / RXD3 (io), 53 P3_3 (io), 54 P3_2 (io), 55 P3_1 / DA2 (io), 56 P3_0 / DA1 (io), 57 VCC (power), 58 VREF (in), 59 AVSS (power), 60 P6_7 / AN7 (io), 61 P6_6 / AN6 (io), 62 P6_5 / AN5 (io), 63 P6_4 / AN4 (io), 64 P6_3 / AN3 (io)

## M38039G8H-XXXKP
designator U?
Spec.H QzROM 8-BIT CMOS Microcomputer, 38000/740 Series CPU, 3803 Group, 32K ROM, 2K RAM, 64P6U-A Pkg, user ROM programmed; Published: 28-Aug-2009; DatasheetVersion: Rev.1.13, Aug-2009; PackageVersion: Oct-2005; PackageReference: PLQP0064GA-A; Publisher: Altium Limited; PackageDescription: 64-Pin Plastic Low Profile QFP, 14 x 14 x 1.4 mm Body, 0.8 mm Pitch; Code_JEITA: P-LQFP64-14x14-0.80; ComponentLink1Description: Manufacturer Link; ComponentLink1URL: http://sg.renesas.com/fmwk.jsp?cnt=740_family_landing.jsp&fp=/products/mpumcu/740_family/; ComponentLink2Description: Datasheet; ComponentLink2URL: http://documentation.renesas.com/eng/products/mpumcu/rej03b0166_3803hqzds.pdf; ComponentLink3Description: Packaging Specification; ComponentLink3URL: http://sg.renesas.com/media/products/common_info/package/pdf/ic/code/plqp0064ga_a.pdf
footprint PLQP0064GA-A_N (QFP, 64-Leads, Body 14x14mm, Pitch 0.8mm, IPC Medium Density)
footprint PLQP0064GA-A_L (QFP, 64-Leads, Body 14x14mm, Pitch 0.8mm, IPC High Density)
footprint PLQP0064GA-A_M (QFP, 64-Leads, Body 14x14mm, Pitch 0.8mm, IPC Low Density)
pins: 1 P6_2 / AN2 (io), 2 P6_1 / AN1 (io), 3 P6_0 / AN0 (io), 4 P5_7 / INT3 (io), 5 P5_6 / PWM (io), 6 P5_5 / CNTR1 (io), 7 P5_4 / CNTR0 (io), 8 P5_3 / ~{SRDY}2 (io), 9 P5_2 / SCLK2 (io), 10 P5_1 / SOUT2 (io), 11 P5_0 / SIN2 (io), 12 P4_7 / ~{SRDY}1 / CNTR2 (io), 13 P4_6 / SCLK1 (io), 14 P4_5 / TXD1 (io), 15 P4_4 / RXD1 (io), 16 P4_3 / INT2 (io), 17 P4_2 / INT1 (io), 18 CNVSS (power), 19 ~{RESET} (in), 20 P4_1 / INT00 / XCIN (io), 21 P4_0 / INT40 / XCOUT (io), 22 XIN (in), 23 XOUT (out), 24 VSS (power), 25 P2_7 (LED7) (io), 26 P2_6 (LED6) (io), 27 P2_5 (LED5) (io), 28 P2_4 (LED4) (io), 29 P2_3 (LED3) (io), 30 P2_2 (LED2) (io), 31 P2_1 (LED1) (io), 32 P2_0 (LED0) (io), 33 P1_7 (io), 34 P1_6 (io), 35 P1_5 (io), 36 P1_4 (io), 37 P1_3 (io), 38 P1_2 (io), 39 P1_1 / INT01 (io), 40 P1_0 / INT41 (io), 41 P0_7 / AN15 (io), 42 P0_6 / AN14 (io), 43 P0_5 / AN13 (io), 44 P0_4 / AN12 (io), 45 P0_3 / AN11 (io), 46 P0_2 / AN10 (io), 47 P0_1 / AN9 (io), 48 P0_0 / AN8 (io), 49 P3_7 / ~{SRDY}3 (io), 50 P3_6 / SCLK3 (io), 51 P3_5 / TXD3 (io), 52 P3_4 / RXD3 (io), 53 P3_3 (io), 54 P3_2 (io), 55 P3_1 / DA2 (io), 56 P3_0 / DA1 (io), 57 VCC (power), 58 VREF (in), 59 AVSS (power), 60 P6_7 / AN7 (io), 61 P6_6 / AN6 (io), 62 P6_5 / AN5 (io), 63 P6_4 / AN4 (io), 64 P6_3 / AN3 (io)